# Altium schematic symbol library SparkFun-Connectors.SCHLIB: 402 symbols (part 1 of 4)
Pins are listed as number, name and electrical type; pins without a type are passive.

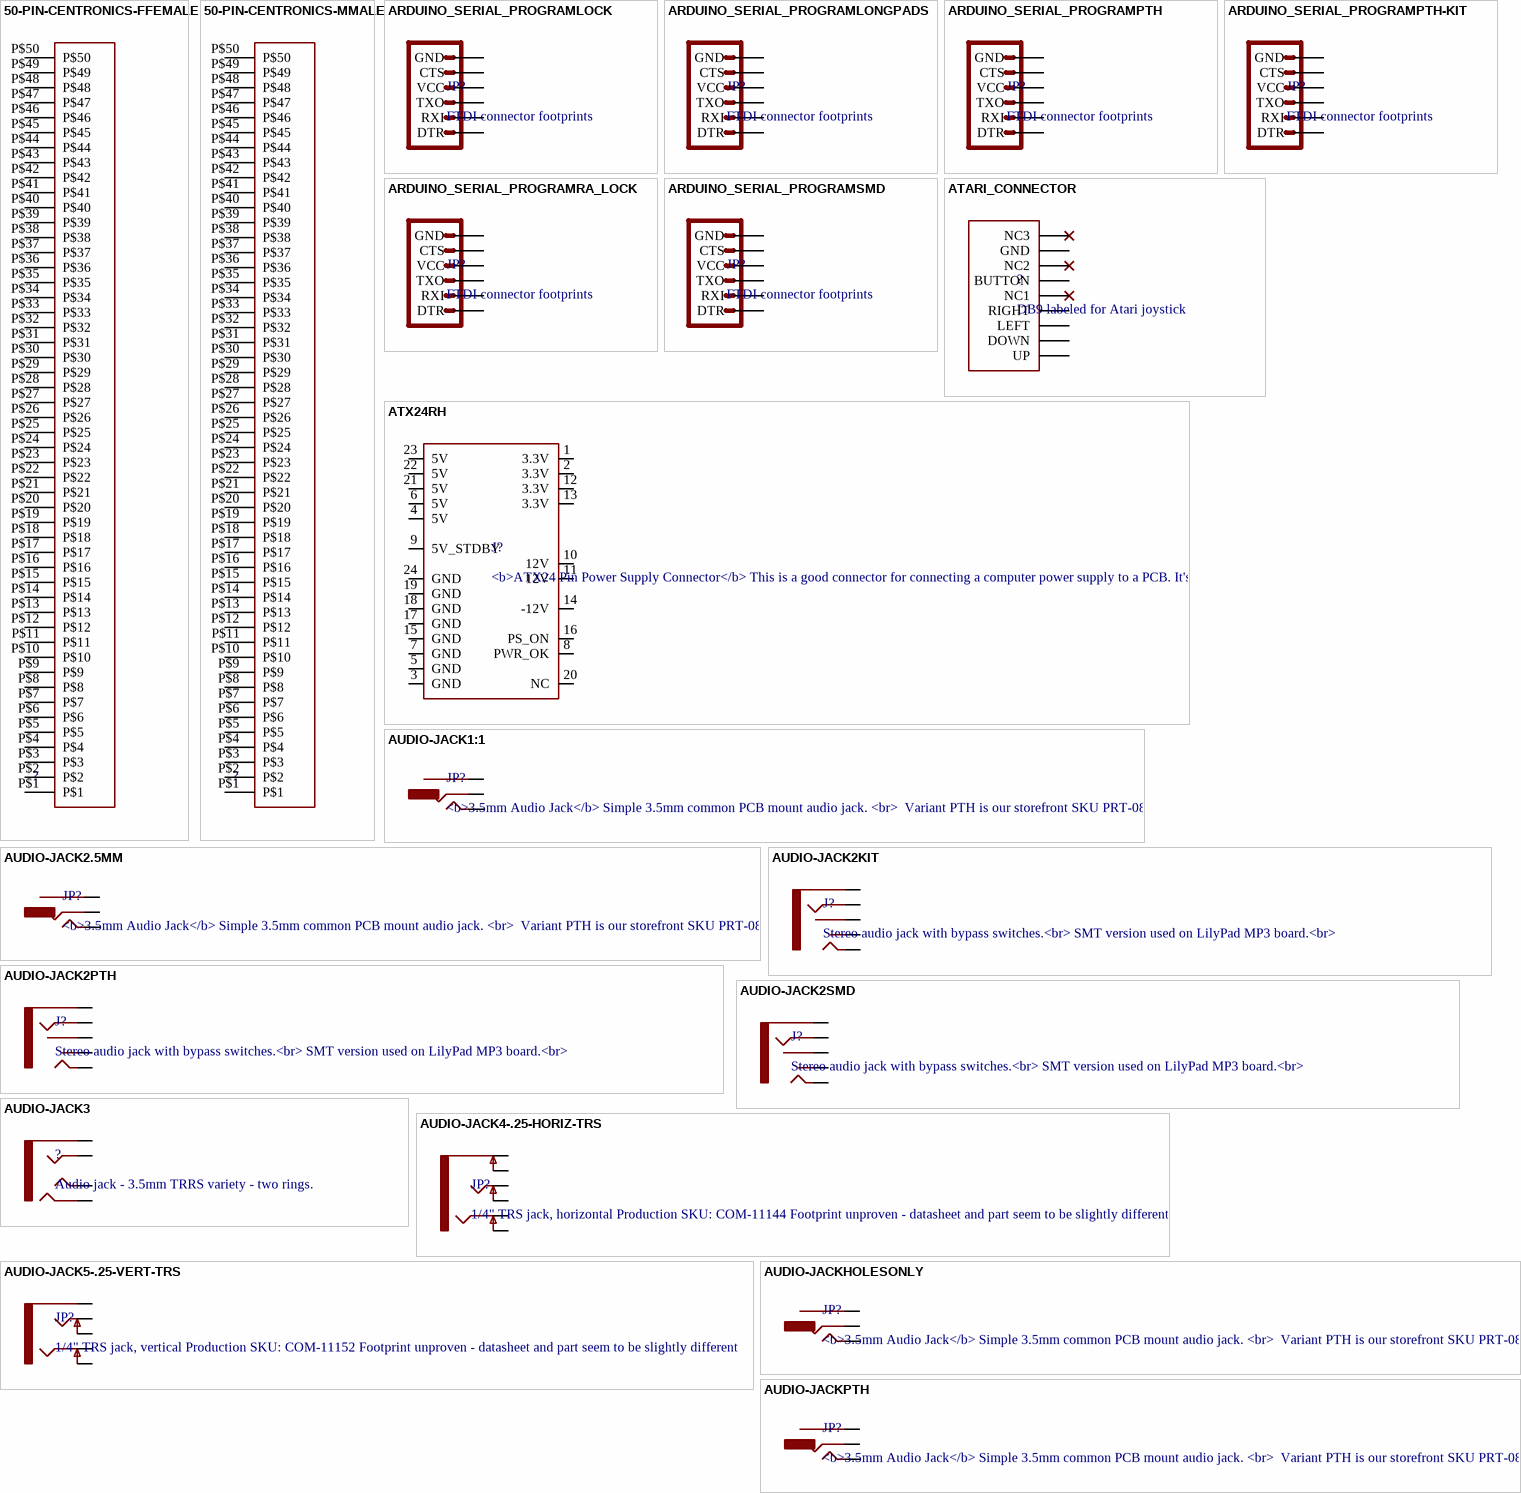
[diagram p0: symbols 50-PIN-CENTRONICS-FFEMALE to AUDIO-JACKPTH]

## 50-PIN-CENTRONICS-FFEMALE
designator ?
footprint 50-PIN-CENTRONICS-F
pins: P$1, P$2, P$3, P$4, P$5, P$6, P$7, P$8, P$9, P$10, P$11, P$12, P$13, P$14, P$15, P$16, P$17, P$18, P$19, P$20, P$21, P$22, P$23, P$24, P$25, P$26, P$27, P$28, P$29, P$30, P$31, P$32, P$33, P$34, P$35, P$36, P$37, P$38, P$39, P$40, P$41, P$42, P$43, P$44, P$45, P$46, P$47, P$48, P$49, P$50

## 50-PIN-CENTRONICS-MMALE
designator ?
footprint 50-PIN-CENTRONICS-M
pins: P$1, P$2, P$3, P$4, P$5, P$6, P$7, P$8, P$9, P$10, P$11, P$12, P$13, P$14, P$15, P$16, P$17, P$18, P$19, P$20, P$21, P$22, P$23, P$24, P$25, P$26, P$27, P$28, P$29, P$30, P$31, P$32, P$33, P$34, P$35, P$36, P$37, P$38, P$39, P$40, P$41, P$42, P$43, P$44, P$45, P$46, P$47, P$48, P$49, P$50

## ARDUINO_SERIAL_PROGRAMLOCK
designator JP?, comment FTDI connector footprints
footprint 1X06_LOCK
pins: 1 DTR, 2 RXI, 3 TXO, 4 VCC, 5 CTS, 6 GND

## ARDUINO_SERIAL_PROGRAMLONGPADS
designator JP?, comment FTDI connector footprints
footprint 1X06_LONGPADS
pins: 1 DTR, 2 RXI, 3 TXO, 4 VCC, 5 CTS, 6 GND

## ARDUINO_SERIAL_PROGRAMPTH
designator JP?, comment FTDI connector footprints
footprint 1X06
pins: 1 DTR, 2 RXI, 3 TXO, 4 VCC, 5 CTS, 6 GND

## ARDUINO_SERIAL_PROGRAMPTH-KIT
designator JP?, comment FTDI connector footprints
footprint 1X06-KIT
pins: 1 DTR, 2 RXI, 3 TXO, 4 VCC, 5 CTS, 6 GND

## ARDUINO_SERIAL_PROGRAMRA_LOCK
designator JP?, comment FTDI connector footprints
footprint MOLEX-1X6-RA_LOCK
pins: 1 GND, 2 CTS, 3 VCC, 4 TXO, 5 RXI, 6 DTR

## ARDUINO_SERIAL_PROGRAMSMD
designator JP?, comment FTDI connector footprints
PROD_ID: CONN-08971
footprint 1X06-SMD
pins: 1 DTR, 2 RXI, 3 TXO, 4 VCC, 5 CTS, 6 GND

## ATARI_CONNECTOR
designator ?, comment DB9 labeled for Atari joystick
footprint ATARI_CONNECTOR
pins: P$1 BUTTON, P$2 NC2, P$3 GND, P$4 NC3, P$5 UP, P$6 DOWN, P$7 LEFT, P$8 RIGHT, P$9 NC1

## ATX24RH
designator J?, comment <b>ATX24 Pin Power Supply Connector</b> This is a good connector for connecting a computer power supply to a PCB. It's massive, but provides many amps of power at 5V and 12V. SKU: PRT-09498
footprint ATX24_RIGHT_ANGLE
pins: 1 3.3V, 2 3.3V, 3 GND, 4 5V, 5 GND, 6 5V, 7 GND, 8 PWR_OK, 9 5V_STDBY, 10 12V, 11 12V, 12 3.3V, 13 3.3V, 14 -12V, 15 GND, 16 PS_ON, 17 GND, 18 GND, 19 GND, 20 NC, 21 5V, 22 5V, 23 5V, 24 GND

## AUDIO-JACK1:1
designator JP?, comment <b>3.5mm Audio Jack</b> / Simple 3.5mm common PCB mount audio jack. <br> / Variant PTH is our storefront SKU PRT-08032
footprint STEREOJACK2.5MM
pins: 1 LEFT, 4 RIGHT, 5 SLEEVE

## AUDIO-JACK2.5MM
designator JP?, comment <b>3.5mm Audio Jack</b> / Simple 3.5mm common PCB mount audio jack. <br> / Variant PTH is our storefront SKU PRT-08032
footprint STEREOJACK2.5MM_STEREOJACK2.5MM
pins: RING1 SLEEVE, SHIELD LEFT, TIP RIGHT

## AUDIO-JACK2KIT
designator J?, comment Stereo audio jack with bypass switches.<br> / SMT version used on LilyPad MP3 board.<br>
PROD_ID: CONN-08774
footprint AUDIO-JACK-KIT
pins: RING, RSH, SLEEVE, TIP, TSH

## AUDIO-JACK2PTH
designator J?, comment Stereo audio jack with bypass switches.<br> / SMT version used on LilyPad MP3 board.<br>
PROD_ID: CONN-08774
footprint AUDIO-JACK
pins: RING, RSH, SLEEVE, TIP, TSH

## AUDIO-JACK2SMD
designator J?, comment Stereo audio jack with bypass switches.<br> / SMT version used on LilyPad MP3 board.<br>
PROD_ID: CONN-10353
footprint AUDIO-JACK-3.5MM-SMD
pins: RING, RSH, SLEEVE, TIP, TSH

## AUDIO-JACK3
designator ?, comment Audio jack - 3.5mm TRRS variety - two rings.
footprint AUDIO-JACK-TRRS-SMD
pins: EARTH, RING1, RING2, TIP

## AUDIO-JACK4-.25-HORIZ-TRS
designator JP?, comment 1/4" TRS jack, horizontal / Production SKU: COM-11144 / Footprint unproven - datasheet and part seem to be slightly different
PROD_ID: COM-11144
footprint AUDIO-JACK-.25-INCH-HORIZ-PTH
pins: RING, RING-NORM, SLEEVE EARTH, SLEEVE-NORM EARTH-NORM, TIP, TIP-NORM

## AUDIO-JACK5-.25-VERT-TRS
designator JP?, comment 1/4" TRS jack, vertical / Production SKU: COM-11152 / Footprint unproven - datasheet and part seem to be slightly different
PROD_ID: COM-11152
footprint AUDIO-JACK-.25-INCH-VERT-PTH
pins: RING, RING-NORM, SLEEVE EARTH, TIP, TIP-NORM

## AUDIO-JACKHOLESONLY
designator JP?, comment <b>3.5mm Audio Jack</b> / Simple 3.5mm common PCB mount audio jack. <br> / Variant PTH is our storefront SKU PRT-08032
footprint STEREOJACK2.5MM_SPECIAL_HOLES-ONLY
pins: RING1 SLEEVE, SHIELD LEFT, TIP RIGHT

## AUDIO-JACKPTH
designator JP?, comment <b>3.5mm Audio Jack</b> / Simple 3.5mm common PCB mount audio jack. <br> / Variant PTH is our storefront SKU PRT-08032
footprint AUDIO-JACK
pins: RING RIGHT, SLEEVE, TIP LEFT

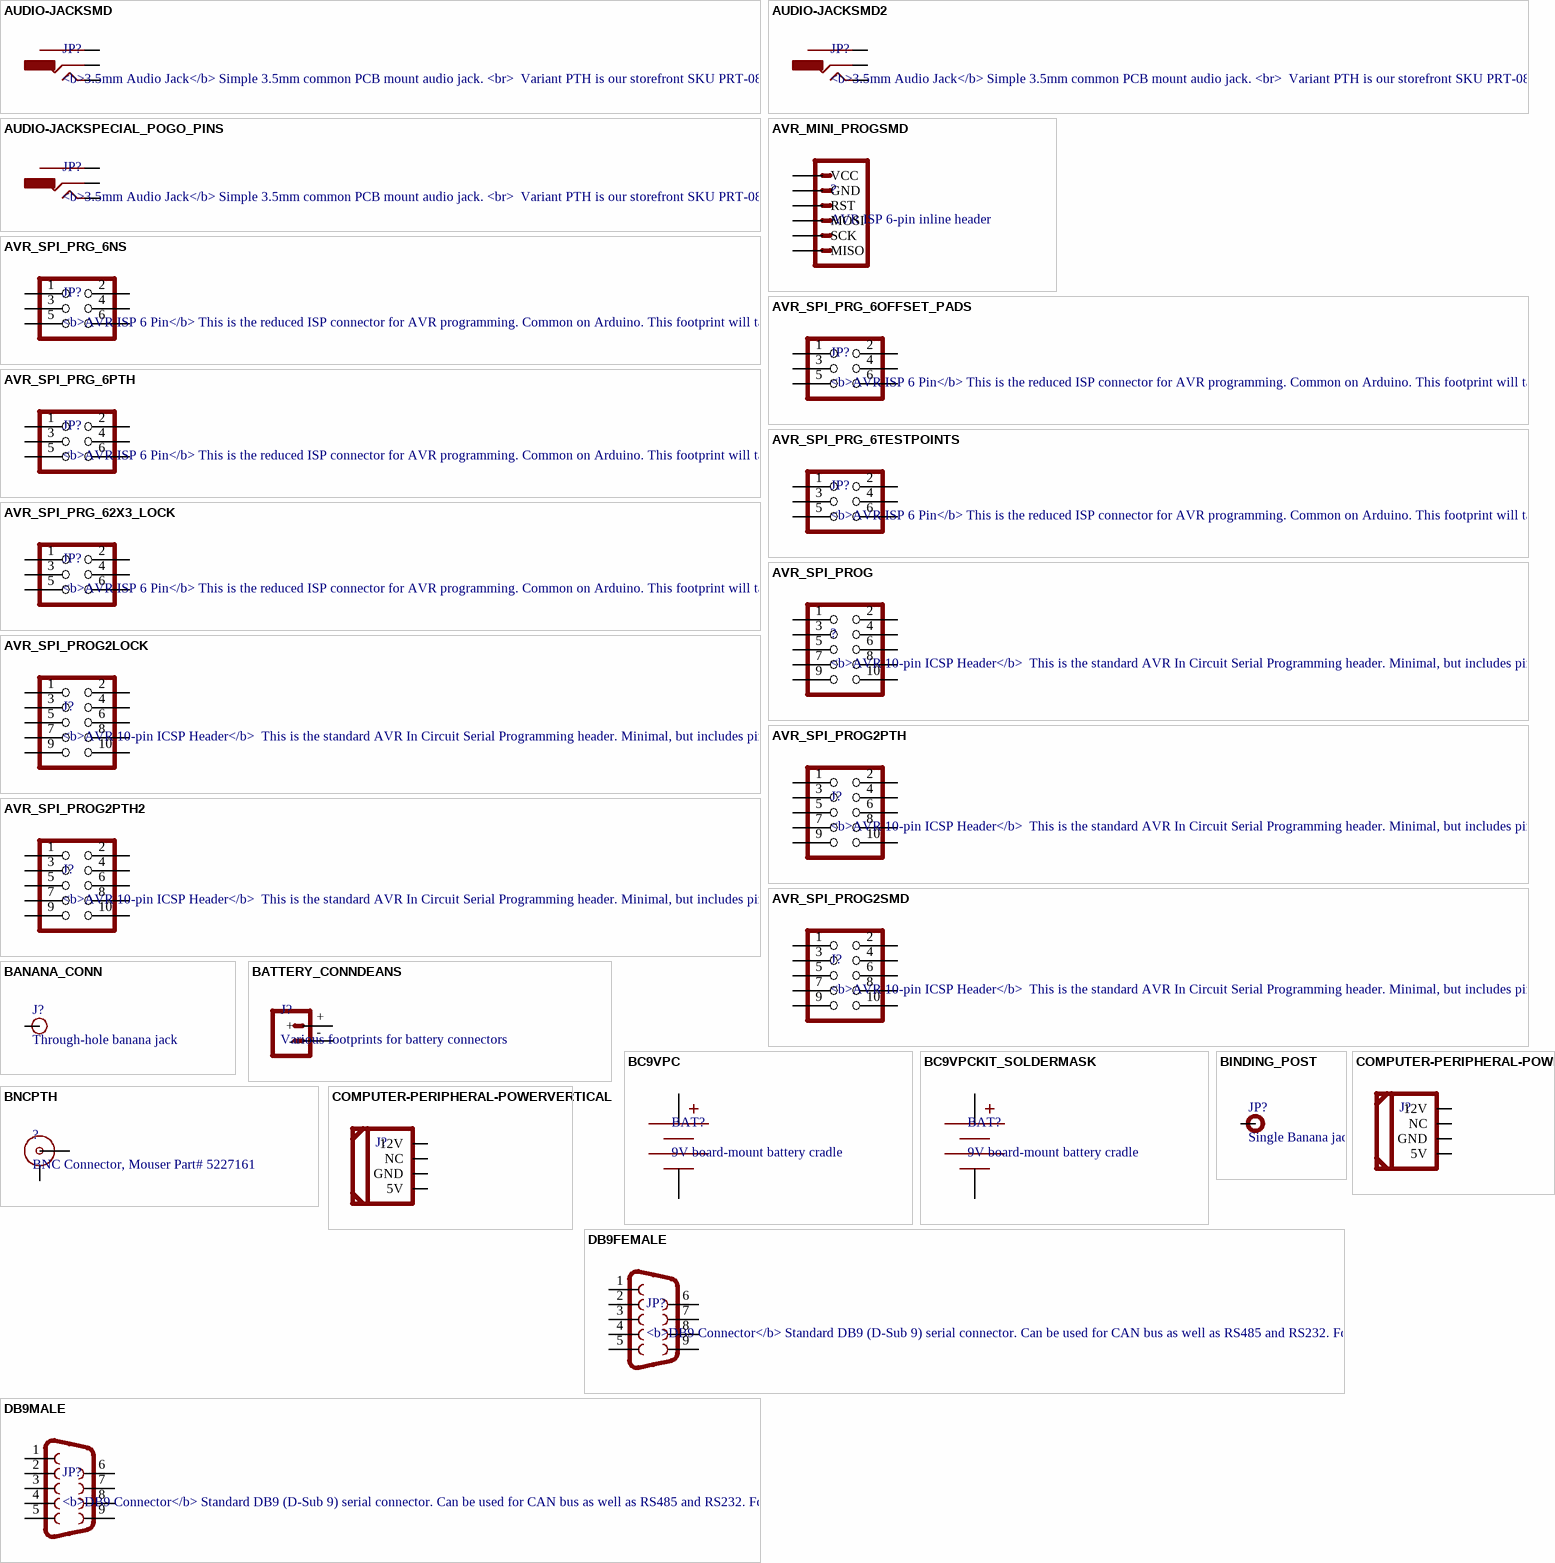
[diagram p1: symbols AUDIO-JACKSMD to DB9MALE]

## AUDIO-JACKSMD
designator JP?, comment <b>3.5mm Audio Jack</b> / Simple 3.5mm common PCB mount audio jack. <br> / Variant PTH is our storefront SKU PRT-08032
PROD_ID: CONN-10062
footprint STEREOJACK2.5MM_SMD
pins: 1 LEFT, 4 RIGHT, 5 SLEEVE

## AUDIO-JACKSMD2
designator JP?, comment <b>3.5mm Audio Jack</b> / Simple 3.5mm common PCB mount audio jack. <br> / Variant PTH is our storefront SKU PRT-08032
PROD_ID: CONN-10353
footprint AUDIO-JACK-3.5MM-SMD
pins: RING RIGHT, SLEEVE, TIP LEFT

## AUDIO-JACKSPECIAL_POGO_PINS
designator JP?, comment <b>3.5mm Audio Jack</b> / Simple 3.5mm common PCB mount audio jack. <br> / Variant PTH is our storefront SKU PRT-08032
footprint STEREOJACK2.5MM_SPECIA_POGOPINS
pins: RING1 SLEEVE, SHIELD LEFT, TIP RIGHT

## AVR_MINI_PROGSMD
designator ?, comment AVR ISP 6-pin inline header
footprint AVR_MINI_PROG
pins: 1 VCC, 2 GND, 3 RST, 4 MOSI, 5 SCK, 6 MISO

## AVR_SPI_PRG_6NS
designator JP?, comment <b>AVR ISP 6 Pin</b> / This is the reduced ISP connector for AVR programming. Common on Arduino. This footprint will take up less PCB space and can be used with a 10-pin to 6-pin adapter such as SKU: BOB-08508 / <b>**Special note about "TEST_POINT" package.</b> The stop mask is on the top side, so if you want your programming test points to be on the bottom of your board, make sure to place this package on the bottom side of the board. This also ensure that the orientation to program from the bottom side will be correct.
footprint 2X3-NS
pins: 1, 2, 3, 4, 5, 6

## AVR_SPI_PRG_6OFFSET_PADS
designator JP?, comment <b>AVR ISP 6 Pin</b> / This is the reduced ISP connector for AVR programming. Common on Arduino. This footprint will take up less PCB space and can be used with a 10-pin to 6-pin adapter such as SKU: BOB-08508 / <b>**Special note about "TEST_POINT" package.</b> The stop mask is on the top side, so if you want your programming test points to be on the bottom of your board, make sure to place this package on the bottom side of the board. This also ensure that the orientation to program from the bottom side will be correct.
footprint 2X3_OFFSET
pins: 1, 2, 3, 4, 5, 6

## AVR_SPI_PRG_6PTH
designator JP?, comment <b>AVR ISP 6 Pin</b> / This is the reduced ISP connector for AVR programming. Common on Arduino. This footprint will take up less PCB space and can be used with a 10-pin to 6-pin adapter such as SKU: BOB-08508 / <b>**Special note about "TEST_POINT" package.</b> The stop mask is on the top side, so if you want your programming test points to be on the bottom of your board, make sure to place this package on the bottom side of the board. This also ensure that the orientation to program from the bottom side will be correct.
footprint 2X3
pins: 1, 2, 3, 4, 5, 6

## AVR_SPI_PRG_6TESTPOINTS
designator JP?, comment <b>AVR ISP 6 Pin</b> / This is the reduced ISP connector for AVR programming. Common on Arduino. This footprint will take up less PCB space and can be used with a 10-pin to 6-pin adapter such as SKU: BOB-08508 / <b>**Special note about "TEST_POINT" package.</b> The stop mask is on the top side, so if you want your programming test points to be on the bottom of your board, make sure to place this package on the bottom side of the board. This also ensure that the orientation to program from the bottom side will be correct.
footprint 2X3_TEST_POINTS
pins: 1, 2, 3, 4, 5, 6

## AVR_SPI_PRG_62X3_LOCK
designator JP?, comment <b>AVR ISP 6 Pin</b> / This is the reduced ISP connector for AVR programming. Common on Arduino. This footprint will take up less PCB space and can be used with a 10-pin to 6-pin adapter such as SKU: BOB-08508 / <b>**Special note about "TEST_POINT" package.</b> The stop mask is on the top side, so if you want your programming test points to be on the bottom of your board, make sure to place this package on the bottom side of the board. This also ensure that the orientation to program from the bottom side will be correct.
footprint 2X3_LOCK
pins: 1, 2, 3, 4, 5, 6

## AVR_SPI_PROG
designator ?, comment <b>AVR 10-pin ICSP Header</b> / This is the standard AVR In Circuit Serial Programming header. Minimal, but includes pin one indicator. Works with standard Olimex programmers. Also look for the 6-pin reduced version. Spark Fun Electronics SKU: PRT-00778
footprint AVR_ICSP
pins: 1, 2, 3, 4, 5, 6, 7, 8, 9, 10

## AVR_SPI_PROG2LOCK
designator J?, comment <b>AVR 10-pin ICSP Header</b> / This is the standard AVR In Circuit Serial Programming header. Minimal, but includes pin one indicator. Works with standard Olimex programmers. Also look for the 6-pin reduced version. Spark Fun Electronics SKU: PRT-00778
footprint 2X5-SHROUDED_LOCK
pins: 1 MOSI, 2 VCC (power), 3 NC, 4 GND (power), 5 RESET, 6 GND (power), 7 SCK, 8 GND (power), 9 MISO, 10 GND (power)

## AVR_SPI_PROG2PTH
designator J?, comment <b>AVR 10-pin ICSP Header</b> / This is the standard AVR In Circuit Serial Programming header. Minimal, but includes pin one indicator. Works with standard Olimex programmers. Also look for the 6-pin reduced version. Spark Fun Electronics SKU: PRT-00778
footprint AVR_ICSP
pins: 1 MOSI, 2 VCC (power), 3 NC, 4 GND (power), 5 RESET, 6 GND (power), 7 SCK, 8 GND (power), 9 MISO, 10 GND (power)

## AVR_SPI_PROG2PTH2
designator J?, comment <b>AVR 10-pin ICSP Header</b> / This is the standard AVR In Circuit Serial Programming header. Minimal, but includes pin one indicator. Works with standard Olimex programmers. Also look for the 6-pin reduced version. Spark Fun Electronics SKU: PRT-00778
footprint 2X5-SHROUDED
pins: 1 MOSI, 2 VCC (power), 3 NC, 4 GND (power), 5 RESET, 6 GND (power), 7 SCK, 8 GND (power), 9 MISO, 10 GND (power)

## AVR_SPI_PROG2SMD
designator J?, comment <b>AVR 10-pin ICSP Header</b> / This is the standard AVR In Circuit Serial Programming header. Minimal, but includes pin one indicator. Works with standard Olimex programmers. Also look for the 6-pin reduced version. Spark Fun Electronics SKU: PRT-00778
footprint 2X5-SHROUDED_SMD
pins: 1 MOSI, 2 VCC (power), 3 NC, 4 GND (power), 5 RESET, 6 GND (power), 7 SCK, 8 GND (power), 9 MISO, 10 GND (power)

## BANANA_CONN
designator J?, comment Through-hole banana jack
footprint BANANA_CONN
pins: P$1 1

## BATTERY_CONNDEANS
designator J?, comment Various footprints for battery connectors
footprint DEANS
pins: +, -

## BC9VPC
designator BAT?, comment 9V board-mount battery cradle
PROD_ID: BATT-10855
footprint BC9VPC
pins: V+, V-

## BC9VPCKIT_SOLDERMASK
designator BAT?, comment 9V board-mount battery cradle
PROD_ID: BATT-10855
footprint BC9VPC_KIT
pins: V+, V-

## BINDING_POST
designator JP?, comment Single Banana jack.  <br><br> / PRT-09739 (red) or PRT-09740 (blk) <br><br> / Footprint is a bit strange.  The component itself has an threaded, insulated body that goes through the board, with a small threaded metal stud coming off the back.  The intent of this package is that the post goes through a milled obling hole, and a small wire would be used to connect from the PCB pad to the metal contact on the post.
footprint BINDING_POST
pins: P$1

## BNCPTH
designator ?, comment BNC Connector, Mouser Part# 5227161
footprint BNC
pins: GND, S OUT

## COMPUTER-PERIPHERAL-POWERRA
designator J?
footprint COMPUTER-PERIPHERAL-POWER-RA
pins: 5V, 12V, GND, NC

## COMPUTER-PERIPHERAL-POWERVERTICAL
designator J?
footprint COMPUTER-PERIPHERAL-POWER
pins: 5V, 12V, GND, NC

## DB9FEMALE
designator JP?, comment <b>DB9 Connector</b> / Standard DB9 (D-Sub 9) serial connector. Can be used for CAN bus as well as RS485 and RS232. Footprint production proven. Spark Fun Electronics SKU : PRT-00429
PROD_ID: CONN-08194
footprint DB9
pins: 1, 2, 3, 4, 5, 6, 7, 8, 9

## DB9MALE
designator JP?, comment <b>DB9 Connector</b> / Standard DB9 (D-Sub 9) serial connector. Can be used for CAN bus as well as RS485 and RS232. Footprint production proven. Spark Fun Electronics SKU : PRT-00429
PROD_ID: CONN-09904
footprint DB9_MALE
pins: 1, 2, 3, 4, 5, 6, 7, 8, 9

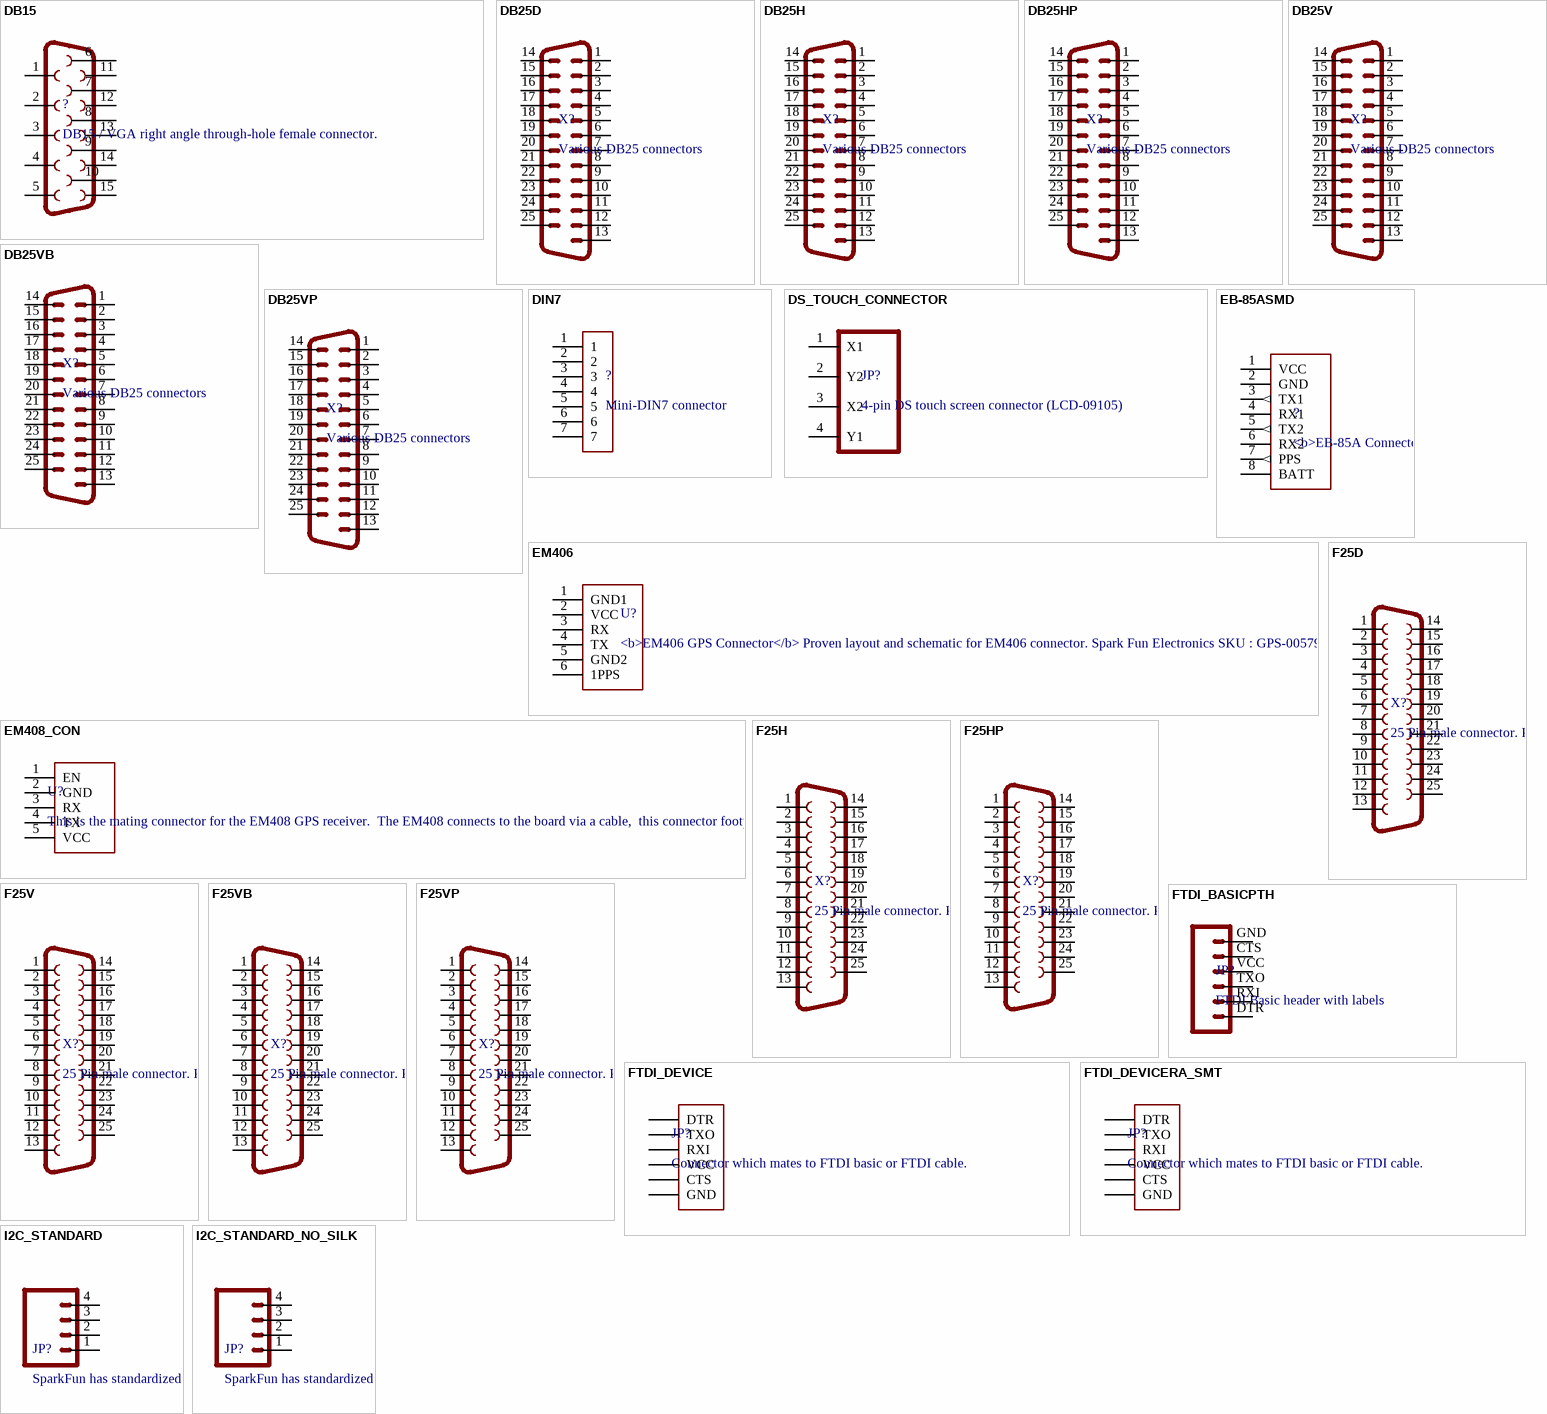
[diagram p2: symbols DB15 to I2C_STANDARD_NO_SILK]

## DB15
designator ?, comment DB15 / VGA right angle through-hole female connector.
footprint DB15
pins: 1, 2, 3, 4, 5, 6, 7, 8, 9, 10, 11, 12, 13, 14, 15

## DB25D
designator X?, comment Various DB25 connectors
footprint M25D
pins: 1, 2, 3, 4, 5, 6, 7, 8, 9, 10, 11, 12, 13, 14, 15, 16, 17, 18, 19, 20, 21, 22, 23, 24, 25

## DB25H
designator X?, comment Various DB25 connectors
footprint M25H
pins: 1, 2, 3, 4, 5, 6, 7, 8, 9, 10, 11, 12, 13, 14, 15, 16, 17, 18, 19, 20, 21, 22, 23, 24, 25

## DB25HP
designator X?, comment Various DB25 connectors
footprint M25HP
pins: 1, 2, 3, 4, 5, 6, 7, 8, 9, 10, 11, 12, 13, 14, 15, 16, 17, 18, 19, 20, 21, 22, 23, 24, 25

## DB25V
designator X?, comment Various DB25 connectors
footprint M25V
pins: 1, 2, 3, 4, 5, 6, 7, 8, 9, 10, 11, 12, 13, 14, 15, 16, 17, 18, 19, 20, 21, 22, 23, 24, 25

## DB25VB
designator X?, comment Various DB25 connectors
footprint M25VB
pins: 1, 2, 3, 4, 5, 6, 7, 8, 9, 10, 11, 12, 13, 14, 15, 16, 17, 18, 19, 20, 21, 22, 23, 24, 25

## DB25VP
designator X?, comment Various DB25 connectors
footprint M25VP
pins: 1, 2, 3, 4, 5, 6, 7, 8, 9, 10, 11, 12, 13, 14, 15, 16, 17, 18, 19, 20, 21, 22, 23, 24, 25

## DIN7
designator ?, comment Mini-DIN7 connector
footprint DIN7
pins: 1, 2, 3, 4, 5, 6, 7

## DS_TOUCH_CONNECTOR
designator JP?, comment 4-pin DS touch screen connector (LCD-09105)
footprint DS_TOUCH_CONNECTOR
pins: 1 X1, 2 Y2, 3 X2, 4 Y1

## EB-85ASMD
designator ?, comment <b>EB-85A Connector</b> / Proven layout and schematic for ETek 5Hz GPS receiver connector. Spark Fun Electronics SKU : GPS-08297
footprint EB-85A
pins: 1 VCC (power), 2 GND (power), 3 TX1 (out), 4 RX1, 5 TX2 (out), 6 RX2, 7 PPS (out), 8 BATT (power)

## EM406
designator U?, comment <b>EM406 GPS Connector</b> / Proven layout and schematic for EM406 connector. Spark Fun Electronics SKU : GPS-00579
footprint EM406
pins: 1 GND1, 2 VCC, 3 RX, 4 TX, 5 GND2, 6 1PPS

## EM408_CON
designator U?, comment This is the mating connector for the EM408 GPS receiver.  The EM408 connects to the board via a cable, / this connector footprint does not include the outline of the receiver. / You should include the "EM408_Outline" device in your schematic if you are to use the EM408 in your design.
footprint EM408_CON
pins: 1 EN, 2 GND, 3 RX, 4 TX, 5 VCC

## F25D
designator X?, comment 25 Pin male connector. PCB edge mount for regular PCB thicknesses. This connector will connect directly to the back of a PC parallel port or through a normal DB25 extension cable (M/F). SKU: PRT-08287
footprint F25D
pins: 1, 2, 3, 4, 5, 6, 7, 8, 9, 10, 11, 12, 13, 14, 15, 16, 17, 18, 19, 20, 21, 22, 23, 24, 25

## F25H
designator X?, comment 25 Pin male connector. PCB edge mount for regular PCB thicknesses. This connector will connect directly to the back of a PC parallel port or through a normal DB25 extension cable (M/F). SKU: PRT-08287
footprint F25H
pins: 1, 2, 3, 4, 5, 6, 7, 8, 9, 10, 11, 12, 13, 14, 15, 16, 17, 18, 19, 20, 21, 22, 23, 24, 25

## F25HP
designator X?, comment 25 Pin male connector. PCB edge mount for regular PCB thicknesses. This connector will connect directly to the back of a PC parallel port or through a normal DB25 extension cable (M/F). SKU: PRT-08287
footprint F25HP
pins: 1, 2, 3, 4, 5, 6, 7, 8, 9, 10, 11, 12, 13, 14, 15, 16, 17, 18, 19, 20, 21, 22, 23, 24, 25

## F25V
designator X?, comment 25 Pin male connector. PCB edge mount for regular PCB thicknesses. This connector will connect directly to the back of a PC parallel port or through a normal DB25 extension cable (M/F). SKU: PRT-08287
footprint F25V
pins: 1, 2, 3, 4, 5, 6, 7, 8, 9, 10, 11, 12, 13, 14, 15, 16, 17, 18, 19, 20, 21, 22, 23, 24, 25

## F25VB
designator X?, comment 25 Pin male connector. PCB edge mount for regular PCB thicknesses. This connector will connect directly to the back of a PC parallel port or through a normal DB25 extension cable (M/F). SKU: PRT-08287
footprint F25VB
pins: 1, 2, 3, 4, 5, 6, 7, 8, 9, 10, 11, 12, 13, 14, 15, 16, 17, 18, 19, 20, 21, 22, 23, 24, 25

## F25VP
designator X?, comment 25 Pin male connector. PCB edge mount for regular PCB thicknesses. This connector will connect directly to the back of a PC parallel port or through a normal DB25 extension cable (M/F). SKU: PRT-08287
footprint F25VP
pins: 1, 2, 3, 4, 5, 6, 7, 8, 9, 10, 11, 12, 13, 14, 15, 16, 17, 18, 19, 20, 21, 22, 23, 24, 25

## FTDI_BASICPTH
designator JP?, comment FTDI Basic header with labels
footprint FTDI_BASIC
pins: CTS 5, DTR 1, GND 6, RXI 2, TXO 3, VCC 4

## FTDI_DEVICE
designator JP?, comment Connector which mates to FTDI basic or FTDI cable.
footprint FTDI_DEVICE_SIDE
pins: P$1 DTR, P$2 TXO, P$3 RXI, P$4 VCC, P$5 CTS, P$6 GND

## FTDI_DEVICERA_SMT
designator JP?, comment Connector which mates to FTDI basic or FTDI cable.
PROD_ID: CONN-08971
footprint FTDI_DEVICE_RA_SMT
pins: 1 DTR, 2 TXO, 3 RXI, 4 VCC, 5 CTS, 6 GND

## I2C_STANDARD
designator JP?, comment SparkFun has standardized on a pinout for all I<sup>2</sup>C based sensor breakouts.<br> / <br> / This pinout allows I<sup>2</sup>C boards to be plugged directly into the headers on Arduino Uno compatible boards, and / to be daisy chained easily.
footprint 1X04
pins: 1, 2, 3, 4

## I2C_STANDARD_NO_SILK
designator JP?, comment SparkFun has standardized on a pinout for all I<sup>2</sup>C based sensor breakouts.<br> / <br> / This pinout allows I<sup>2</sup>C boards to be plugged directly into the headers on Arduino Uno compatible boards, and / to be daisy chained easily.
footprint 1X04_NO_SILK
pins: 1, 2, 3, 4

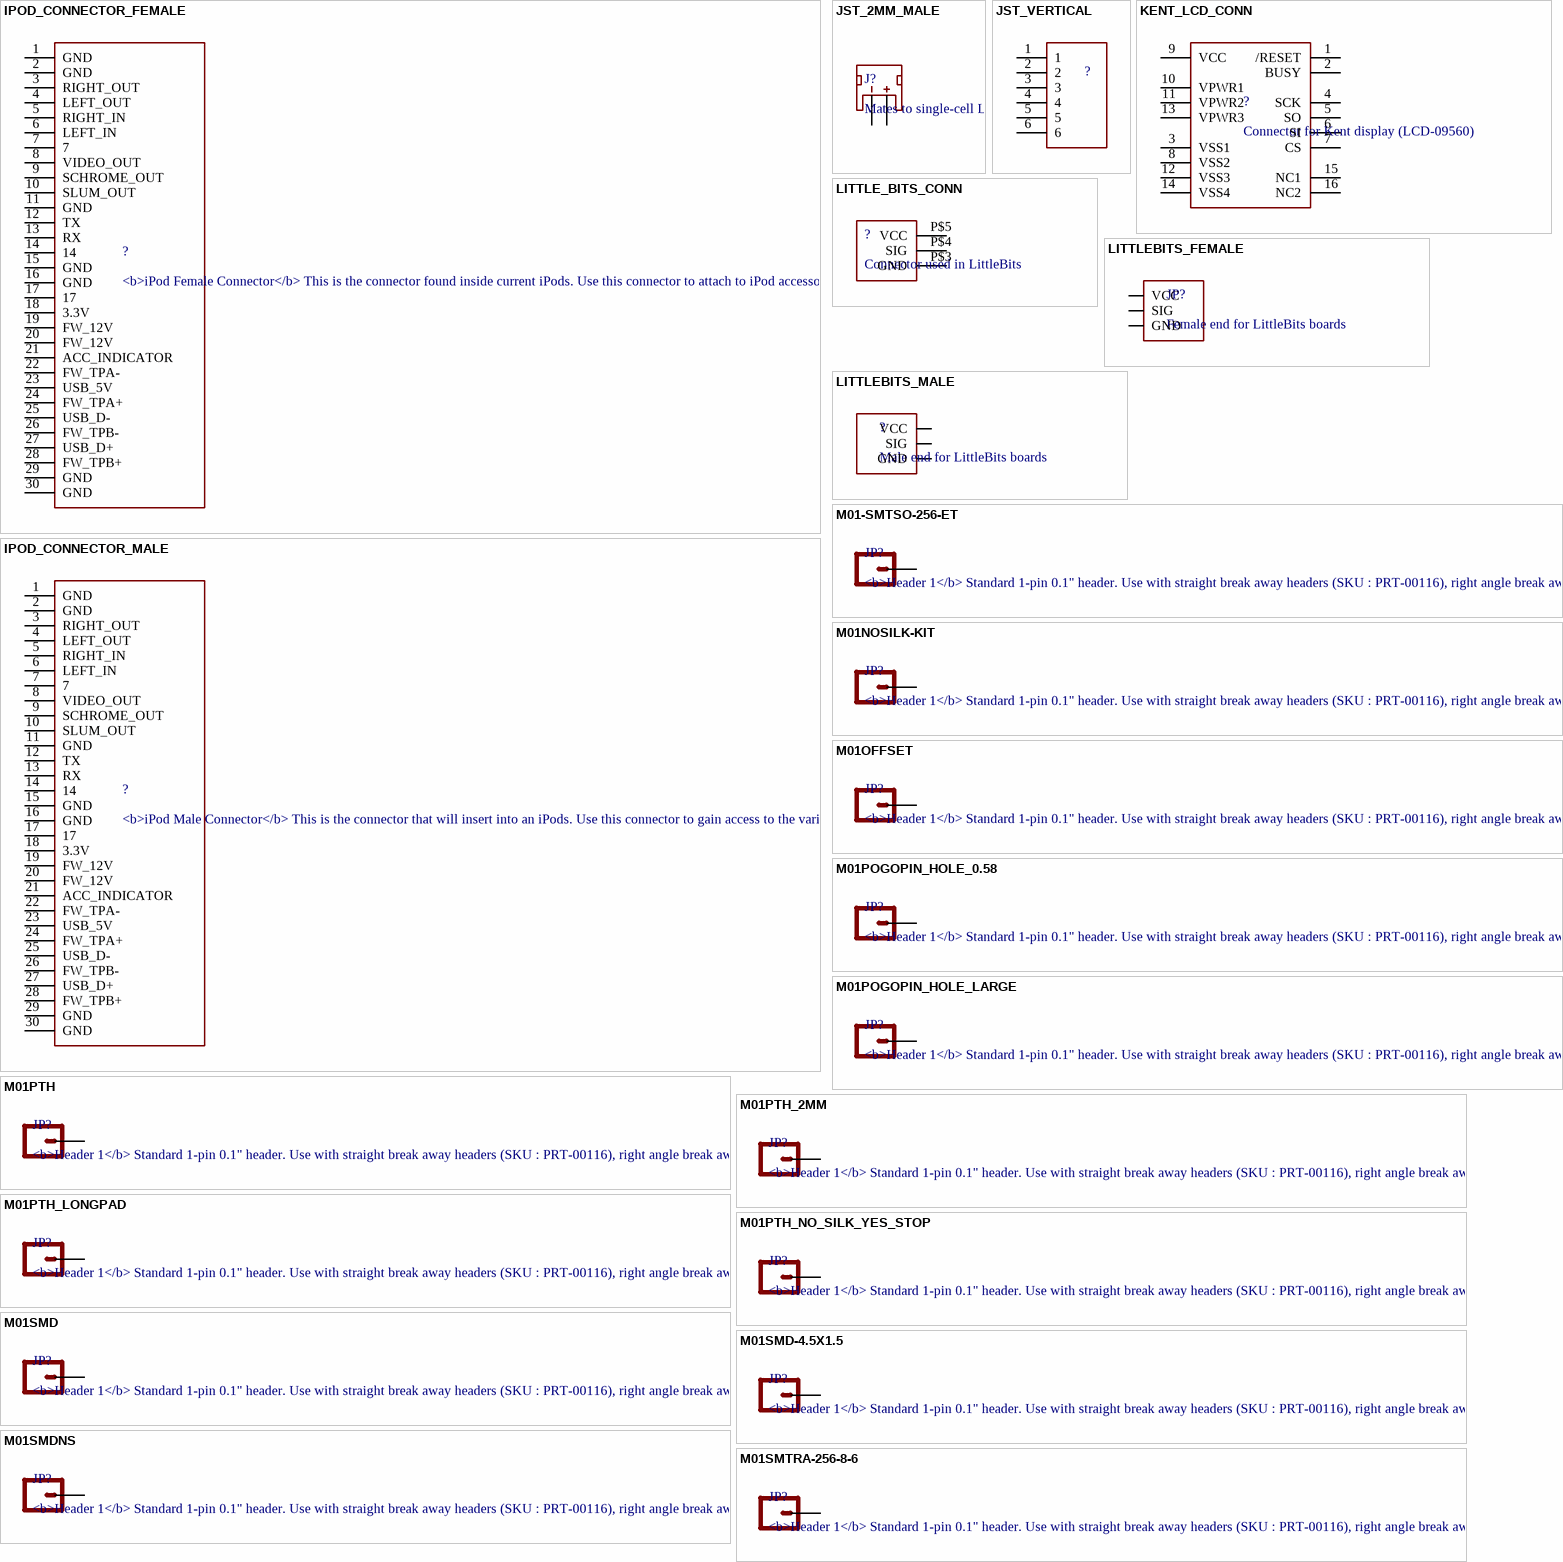
[diagram p3: symbols IPOD_CONNECTOR_FEMALE to M01SMTRA-256-8-6]

## IPOD_CONNECTOR_FEMALE
designator ?, comment <b>iPod Female Connector</b> / This is the connector found inside current iPods. Use this connector to attach to iPod accessories like Nike+iPods, etc. Schematic and footprint are not yet production proven. Spark Fun Electronics SKU : DEV-08035
footprint IPOD_FEMALE_CONNECTOR
pins: 1 GND, 2 GND, 3 RIGHT_OUT, 4 LEFT_OUT, 5 RIGHT_IN, 6 LEFT_IN, 7, 8 VIDEO_OUT, 9 SCHROME_OUT, 10 SLUM_OUT, 11 GND, 12 TX, 13 RX, 14, 15 GND, 16 GND, 17, 18 3.3V, 19 FW_12V, 20 FW_12V, 21 ACC_INDICATOR, 22 FW_TPA-, 23 USB_5V, 24 FW_TPA+, 25 USB_D-, 26 FW_TPB-, 27 USB_D+, 28 FW_TPB+, 29 GND, 30 GND

## IPOD_CONNECTOR_MALE
designator ?, comment <b>iPod Male Connector</b> / This is the connector that will insert into an iPods. Use this connector to gain access to the various iPod pins. Schematic and footprint are not yet production proven. The PCB thickness must be more thin than the standard 0.062" FR4. Spark Fun Electronics SKU : DEV-00633
footprint IPOD_MALE_CONNECTOR
pins: 1 GND, 2 GND, 3 RIGHT_OUT, 4 LEFT_OUT, 5 RIGHT_IN, 6 LEFT_IN, 7, 8 VIDEO_OUT, 9 SCHROME_OUT, 10 SLUM_OUT, 11 GND, 12 TX, 13 RX, 14, 15 GND, 16 GND, 17, 18 3.3V, 19 FW_12V, 20 FW_12V, 21 ACC_INDICATOR, 22 FW_TPA-, 23 USB_5V, 24 FW_TPA+, 25 USB_D-, 26 FW_TPB-, 27 USB_D+, 28 FW_TPB+, 29 GND, 30 GND

## JST_2MM_MALE
designator J?, comment Mates to single-cell LiPo batteries.<br> / CONN-11443<br /> / Now with smashable polarity marks!
BTM_POS: +; BTM_NEG: -; PROD_ID: CONN-11443; TOP_NEG: -; TOP_POS: +
footprint JST-2-SMD
pins: 1 -, 2 +, NC1 PAD1, NC2 PAD2

## JST_VERTICAL
designator ?
PROD_ID: CONN-08249
footprint JST-6-SMD-VERT-1.0MM
pins: 1, 2, 3, 4, 5, 6

## KENT_LCD_CONN
designator ?, comment Connector for Kent display (LCD-09560)
footprint FFC_16
pins: 1 /RESET, 2 BUSY, 3 VSS1, 4 SCK, 5 SO, 6 SI, 7 CS, 8 VSS2, 9 VCC, 10 VPWR1, 11 VPWR2, 12 VSS3, 13 VPWR3, 14 VSS4, 15 NC1, 16 NC2

## LITTLE_BITS_CONN
designator ?, comment Connector used in LittleBits
footprint LITTLEBITS
pins: P$3 GND, P$4 SIG, P$5 VCC

## LITTLEBITS_FEMALE
designator JP?, comment Female end for LittleBits boards
footprint LITTLE_BITS_FEMALE
pins: SIG, V+ VCC, V- GND

## LITTLEBITS_MALE
designator ?, comment Male end for LittleBits boards
footprint LITTLE_BITS_MALE
pins: SIG, V+ VCC, V- GND

## M01-SMTSO-256-ET
designator JP?, comment <b>Header 1</b> / Standard 1-pin 0.1" header. Use with straight break away headers (SKU : PRT-00116), right angle break away headers (PRT-00553), swiss pins (PRT-00743), machine pins (PRT-00117), and female headers (PRT-00115).
footprint SMTSO-256-ET
pins: P$1 1

## M01NOSILK-KIT
designator JP?, comment <b>Header 1</b> / Standard 1-pin 0.1" header. Use with straight break away headers (SKU : PRT-00116), right angle break away headers (PRT-00553), swiss pins (PRT-00743), machine pins (PRT-00117), and female headers (PRT-00115).
footprint 1X01NS-KIT
pins: 1

## M01OFFSET
designator JP?, comment <b>Header 1</b> / Standard 1-pin 0.1" header. Use with straight break away headers (SKU : PRT-00116), right angle break away headers (PRT-00553), swiss pins (PRT-00743), machine pins (PRT-00117), and female headers (PRT-00115).
footprint 1X01_OFFSET
pins: 1

## M01POGOPIN_HOLE_0.58
designator JP?, comment <b>Header 1</b> / Standard 1-pin 0.1" header. Use with straight break away headers (SKU : PRT-00116), right angle break away headers (PRT-00553), swiss pins (PRT-00743), machine pins (PRT-00117), and female headers (PRT-00115).
footprint 1X01_POGOPIN_HOLE_0.58
pins: 1

## M01POGOPIN_HOLE_LARGE
designator JP?, comment <b>Header 1</b> / Standard 1-pin 0.1" header. Use with straight break away headers (SKU : PRT-00116), right angle break away headers (PRT-00553), swiss pins (PRT-00743), machine pins (PRT-00117), and female headers (PRT-00115).
footprint 1X01_POGOPIN_HOLE_LARGE
pins: 1

## M01PTH
designator JP?, comment <b>Header 1</b> / Standard 1-pin 0.1" header. Use with straight break away headers (SKU : PRT-00116), right angle break away headers (PRT-00553), swiss pins (PRT-00743), machine pins (PRT-00117), and female headers (PRT-00115).
footprint 1X01
pins: 1

## M01PTH_2MM
designator JP?, comment <b>Header 1</b> / Standard 1-pin 0.1" header. Use with straight break away headers (SKU : PRT-00116), right angle break away headers (PRT-00553), swiss pins (PRT-00743), machine pins (PRT-00117), and female headers (PRT-00115).
footprint 1X01_2MM
pins: 1

## M01PTH_LONGPAD
designator JP?, comment <b>Header 1</b> / Standard 1-pin 0.1" header. Use with straight break away headers (SKU : PRT-00116), right angle break away headers (PRT-00553), swiss pins (PRT-00743), machine pins (PRT-00117), and female headers (PRT-00115).
footprint 1X01_LONGPAD
pins: 1

## M01PTH_NO_SILK_YES_STOP
designator JP?, comment <b>Header 1</b> / Standard 1-pin 0.1" header. Use with straight break away headers (SKU : PRT-00116), right angle break away headers (PRT-00553), swiss pins (PRT-00743), machine pins (PRT-00117), and female headers (PRT-00115).
footprint 1X01_NO_SILK
pins: 1

## M01SMD
designator JP?, comment <b>Header 1</b> / Standard 1-pin 0.1" header. Use with straight break away headers (SKU : PRT-00116), right angle break away headers (PRT-00553), swiss pins (PRT-00743), machine pins (PRT-00117), and female headers (PRT-00115).
footprint LUXEON-PAD
pins: P$1 1

## M01SMD-4.5X1.5
designator JP?, comment <b>Header 1</b> / Standard 1-pin 0.1" header. Use with straight break away headers (SKU : PRT-00116), right angle break away headers (PRT-00553), swiss pins (PRT-00743), machine pins (PRT-00117), and female headers (PRT-00115).
footprint PAD-1.5X4.5
pins: P$1 1

## M01SMDNS
designator JP?, comment <b>Header 1</b> / Standard 1-pin 0.1" header. Use with straight break away headers (SKU : PRT-00116), right angle break away headers (PRT-00553), swiss pins (PRT-00743), machine pins (PRT-00117), and female headers (PRT-00115).
footprint 1X01NS
pins: 1

## M01SMTRA-256-8-6
designator JP?, comment <b>Header 1</b> / Standard 1-pin 0.1" header. Use with straight break away headers (SKU : PRT-00116), right angle break away headers (PRT-00553), swiss pins (PRT-00743), machine pins (PRT-00117), and female headers (PRT-00115).
footprint SMTRA-256-8-6
pins: P$1 1

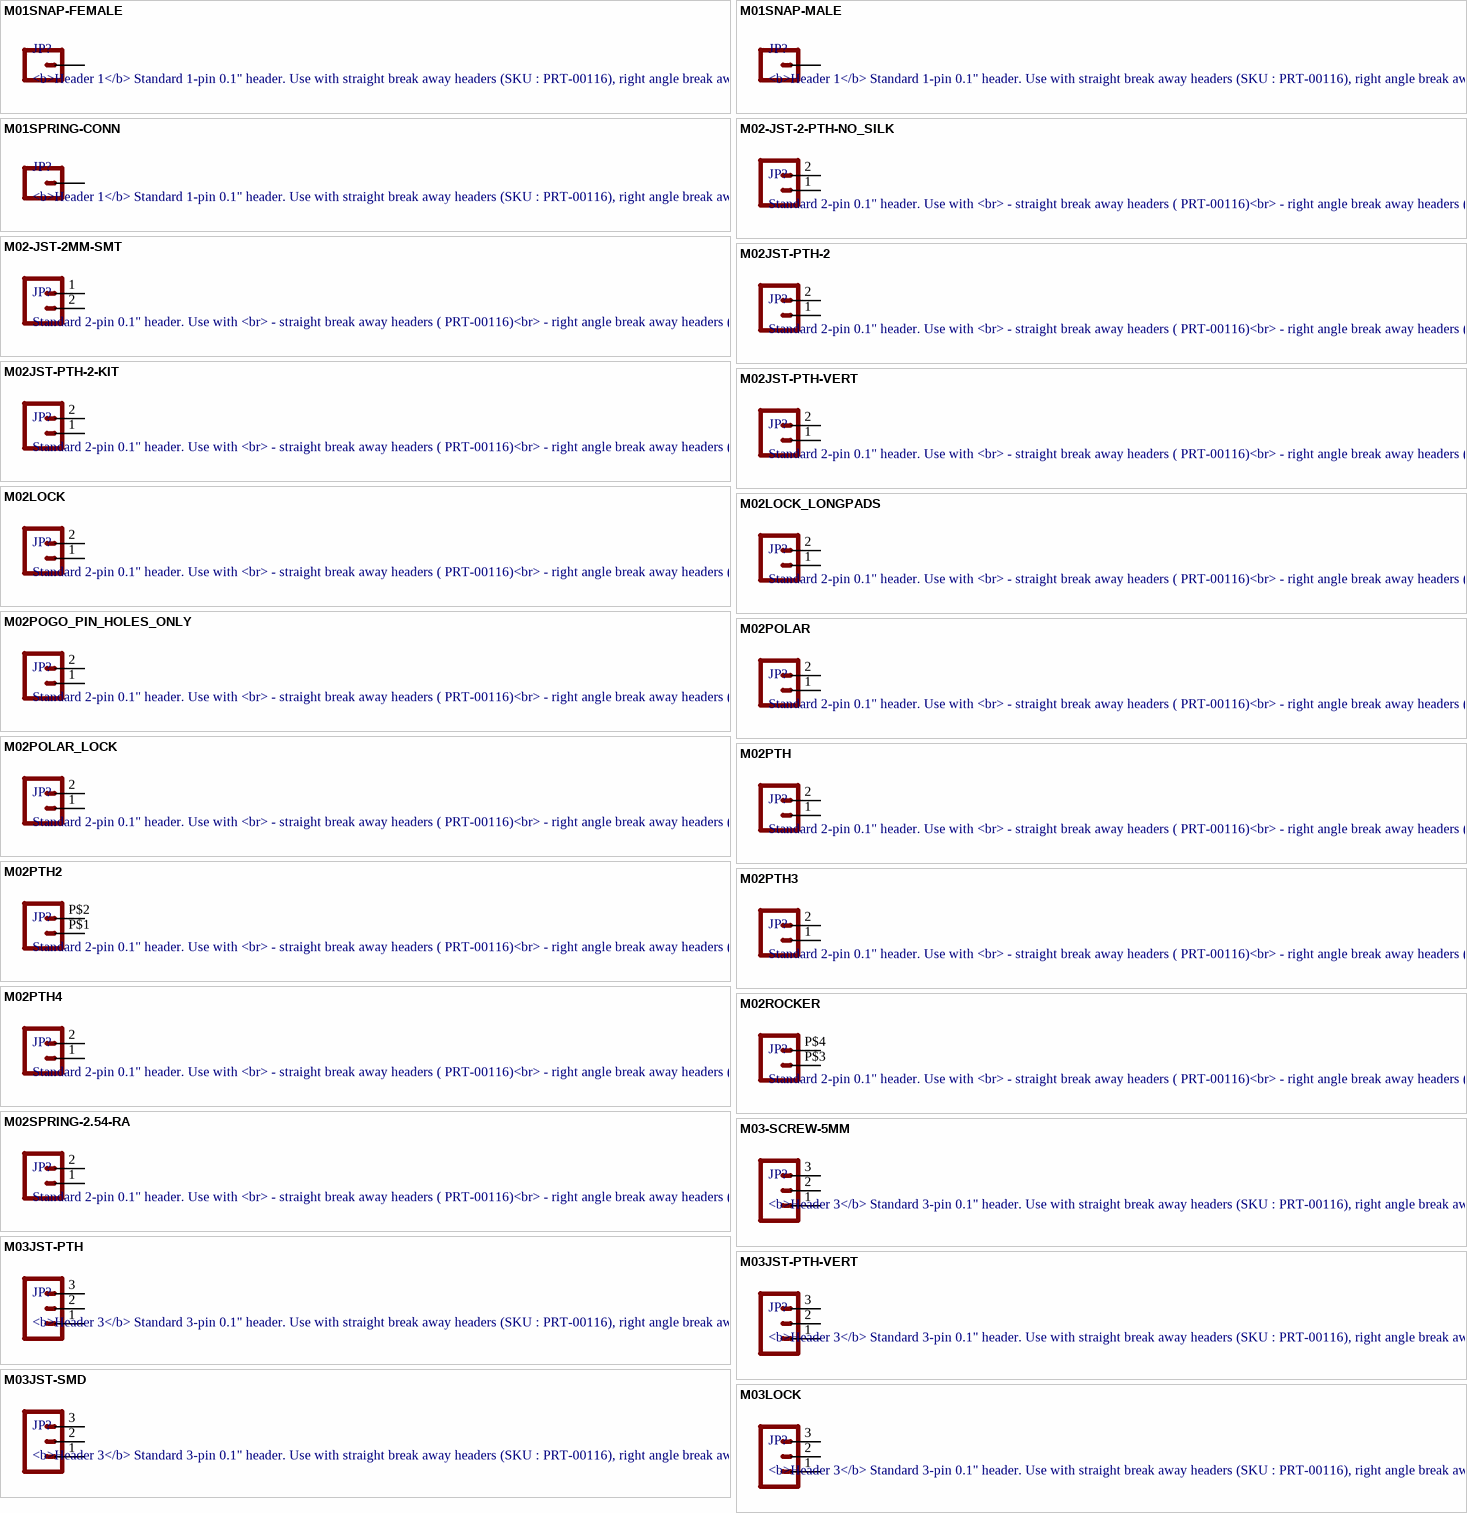
[diagram p4: symbols M01SNAP-FEMALE to M03LOCK]

## M01SNAP-FEMALE
designator JP?, comment <b>Header 1</b> / Standard 1-pin 0.1" header. Use with straight break away headers (SKU : PRT-00116), right angle break away headers (PRT-00553), swiss pins (PRT-00743), machine pins (PRT-00117), and female headers (PRT-00115).
footprint SNAP-FEMALE
pins: 1

## M01SNAP-MALE
designator JP?, comment <b>Header 1</b> / Standard 1-pin 0.1" header. Use with straight break away headers (SKU : PRT-00116), right angle break away headers (PRT-00553), swiss pins (PRT-00743), machine pins (PRT-00117), and female headers (PRT-00115).
footprint SNAP-MALE
pins: 2 1

## M01SPRING-CONN
designator JP?, comment <b>Header 1</b> / Standard 1-pin 0.1" header. Use with straight break away headers (SKU : PRT-00116), right angle break away headers (PRT-00553), swiss pins (PRT-00743), machine pins (PRT-00117), and female headers (PRT-00115).
footprint SPRING-CONNECTOR
pins: P$2 1

## M02-JST-2-PTH-NO_SILK
designator JP?, comment Standard 2-pin 0.1" header. Use with <br> / - straight break away headers ( PRT-00116)<br> / - right angle break away headers (PRT-00553)<br> / - swiss pins (PRT-00743)<br> / - machine pins (PRT-00117)<br> / - female headers (PRT-00115)<br><br> / Molex polarized connector foot print use with: PRT-08233 with associated crimp pins and housings.<br><br> / 2.54_SCREWTERM for use with  PRT-10571.<br><br> / 3.5mm Screw Terminal footprints for  PRT-08084<br><br> / 5mm Screw Terminal footprints for use with PRT-08432
footprint JST-2-PTH-NS
pins: 1, 2

## M02-JST-2MM-SMT
designator JP?, comment Standard 2-pin 0.1" header. Use with <br> / - straight break away headers ( PRT-00116)<br> / - right angle break away headers (PRT-00553)<br> / - swiss pins (PRT-00743)<br> / - machine pins (PRT-00117)<br> / - female headers (PRT-00115)<br><br> / Molex polarized connector foot print use with: PRT-08233 with associated crimp pins and housings.<br><br> / 2.54_SCREWTERM for use with  PRT-10571.<br><br> / 3.5mm Screw Terminal footprints for  PRT-08084<br><br> / 5mm Screw Terminal footprints for use with PRT-08432
PROD_ID: CONN-11443
footprint JST-2-SMD
pins: 1 2, 2 1

## M02JST-PTH-2
designator JP?, comment Standard 2-pin 0.1" header. Use with <br> / - straight break away headers ( PRT-00116)<br> / - right angle break away headers (PRT-00553)<br> / - swiss pins (PRT-00743)<br> / - machine pins (PRT-00117)<br> / - female headers (PRT-00115)<br><br> / Molex polarized connector foot print use with: PRT-08233 with associated crimp pins and housings.<br><br> / 2.54_SCREWTERM for use with  PRT-10571.<br><br> / 3.5mm Screw Terminal footprints for  PRT-08084<br><br> / 5mm Screw Terminal footprints for use with PRT-08432
PROD_ID: CONN-09863; SKU: PRT-09914
footprint JST-2-PTH
pins: 1, 2

## M02JST-PTH-2-KIT
designator JP?, comment Standard 2-pin 0.1" header. Use with <br> / - straight break away headers ( PRT-00116)<br> / - right angle break away headers (PRT-00553)<br> / - swiss pins (PRT-00743)<br> / - machine pins (PRT-00117)<br> / - female headers (PRT-00115)<br><br> / Molex polarized connector foot print use with: PRT-08233 with associated crimp pins and housings.<br><br> / 2.54_SCREWTERM for use with  PRT-10571.<br><br> / 3.5mm Screw Terminal footprints for  PRT-08084<br><br> / 5mm Screw Terminal footprints for use with PRT-08432
footprint JST-2-PTH-KIT
pins: 1, 2

## M02JST-PTH-VERT
designator JP?, comment Standard 2-pin 0.1" header. Use with <br> / - straight break away headers ( PRT-00116)<br> / - right angle break away headers (PRT-00553)<br> / - swiss pins (PRT-00743)<br> / - machine pins (PRT-00117)<br> / - female headers (PRT-00115)<br><br> / Molex polarized connector foot print use with: PRT-08233 with associated crimp pins and housings.<br><br> / 2.54_SCREWTERM for use with  PRT-10571.<br><br> / 3.5mm Screw Terminal footprints for  PRT-08084<br><br> / 5mm Screw Terminal footprints for use with PRT-08432
footprint JST-2-PTH-VERT
pins: 1, 2

## M02LOCK
designator JP?, comment Standard 2-pin 0.1" header. Use with <br> / - straight break away headers ( PRT-00116)<br> / - right angle break away headers (PRT-00553)<br> / - swiss pins (PRT-00743)<br> / - machine pins (PRT-00117)<br> / - female headers (PRT-00115)<br><br> / Molex polarized connector foot print use with: PRT-08233 with associated crimp pins and housings.<br><br> / 2.54_SCREWTERM for use with  PRT-10571.<br><br> / 3.5mm Screw Terminal footprints for  PRT-08084<br><br> / 5mm Screw Terminal footprints for use with PRT-08432
footprint 1X02_LOCK
pins: 1, 2

## M02LOCK_LONGPADS
designator JP?, comment Standard 2-pin 0.1" header. Use with <br> / - straight break away headers ( PRT-00116)<br> / - right angle break away headers (PRT-00553)<br> / - swiss pins (PRT-00743)<br> / - machine pins (PRT-00117)<br> / - female headers (PRT-00115)<br><br> / Molex polarized connector foot print use with: PRT-08233 with associated crimp pins and housings.<br><br> / 2.54_SCREWTERM for use with  PRT-10571.<br><br> / 3.5mm Screw Terminal footprints for  PRT-08084<br><br> / 5mm Screw Terminal footprints for use with PRT-08432
footprint 1X02_LOCK_LONGPADS
pins: 1, 2

## M02POGO_PIN_HOLES_ONLY
designator JP?, comment Standard 2-pin 0.1" header. Use with <br> / - straight break away headers ( PRT-00116)<br> / - right angle break away headers (PRT-00553)<br> / - swiss pins (PRT-00743)<br> / - machine pins (PRT-00117)<br> / - female headers (PRT-00115)<br><br> / Molex polarized connector foot print use with: PRT-08233 with associated crimp pins and housings.<br><br> / 2.54_SCREWTERM for use with  PRT-10571.<br><br> / 3.5mm Screw Terminal footprints for  PRT-08084<br><br> / 5mm Screw Terminal footprints for use with PRT-08432
footprint 1X02_PP_HOLES_ONLY
pins: 1, 2

## M02POLAR
designator JP?, comment Standard 2-pin 0.1" header. Use with <br> / - straight break away headers ( PRT-00116)<br> / - right angle break away headers (PRT-00553)<br> / - swiss pins (PRT-00743)<br> / - machine pins (PRT-00117)<br> / - female headers (PRT-00115)<br><br> / Molex polarized connector foot print use with: PRT-08233 with associated crimp pins and housings.<br><br> / 2.54_SCREWTERM for use with  PRT-10571.<br><br> / 3.5mm Screw Terminal footprints for  PRT-08084<br><br> / 5mm Screw Terminal footprints for use with PRT-08432
footprint MOLEX-1X2
pins: 1, 2

## M02POLAR_LOCK
designator JP?, comment Standard 2-pin 0.1" header. Use with <br> / - straight break away headers ( PRT-00116)<br> / - right angle break away headers (PRT-00553)<br> / - swiss pins (PRT-00743)<br> / - machine pins (PRT-00117)<br> / - female headers (PRT-00115)<br><br> / Molex polarized connector foot print use with: PRT-08233 with associated crimp pins and housings.<br><br> / 2.54_SCREWTERM for use with  PRT-10571.<br><br> / 3.5mm Screw Terminal footprints for  PRT-08084<br><br> / 5mm Screw Terminal footprints for use with PRT-08432
footprint MOLEX-1X2_LOCK
pins: 1, 2

## M02PTH
designator JP?, comment Standard 2-pin 0.1" header. Use with <br> / - straight break away headers ( PRT-00116)<br> / - right angle break away headers (PRT-00553)<br> / - swiss pins (PRT-00743)<br> / - machine pins (PRT-00117)<br> / - female headers (PRT-00115)<br><br> / Molex polarized connector foot print use with: PRT-08233 with associated crimp pins and housings.<br><br> / 2.54_SCREWTERM for use with  PRT-10571.<br><br> / 3.5mm Screw Terminal footprints for  PRT-08084<br><br> / 5mm Screw Terminal footprints for use with PRT-08432
footprint 1X02
pins: 1, 2

## M02PTH2
designator JP?, comment Standard 2-pin 0.1" header. Use with <br> / - straight break away headers ( PRT-00116)<br> / - right angle break away headers (PRT-00553)<br> / - swiss pins (PRT-00743)<br> / - machine pins (PRT-00117)<br> / - female headers (PRT-00115)<br><br> / Molex polarized connector foot print use with: PRT-08233 with associated crimp pins and housings.<br><br> / 2.54_SCREWTERM for use with  PRT-10571.<br><br> / 3.5mm Screw Terminal footprints for  PRT-08084<br><br> / 5mm Screw Terminal footprints for use with PRT-08432
footprint 1X02_BIG
pins: P$1 1, P$2 2

## M02PTH3
designator JP?, comment Standard 2-pin 0.1" header. Use with <br> / - straight break away headers ( PRT-00116)<br> / - right angle break away headers (PRT-00553)<br> / - swiss pins (PRT-00743)<br> / - machine pins (PRT-00117)<br> / - female headers (PRT-00115)<br><br> / Molex polarized connector foot print use with: PRT-08233 with associated crimp pins and housings.<br><br> / 2.54_SCREWTERM for use with  PRT-10571.<br><br> / 3.5mm Screw Terminal footprints for  PRT-08084<br><br> / 5mm Screw Terminal footprints for use with PRT-08432
footprint 1X02_LONGPADS
pins: 1, 2

## M02PTH4
designator JP?, comment Standard 2-pin 0.1" header. Use with <br> / - straight break away headers ( PRT-00116)<br> / - right angle break away headers (PRT-00553)<br> / - swiss pins (PRT-00743)<br> / - machine pins (PRT-00117)<br> / - female headers (PRT-00115)<br><br> / Molex polarized connector foot print use with: PRT-08233 with associated crimp pins and housings.<br><br> / 2.54_SCREWTERM for use with  PRT-10571.<br><br> / 3.5mm Screw Terminal footprints for  PRT-08084<br><br> / 5mm Screw Terminal footprints for use with PRT-08432
footprint 1X02_XTRA_BIG
pins: 1, 2

## M02ROCKER
designator JP?, comment Standard 2-pin 0.1" header. Use with <br> / - straight break away headers ( PRT-00116)<br> / - right angle break away headers (PRT-00553)<br> / - swiss pins (PRT-00743)<br> / - machine pins (PRT-00117)<br> / - female headers (PRT-00115)<br><br> / Molex polarized connector foot print use with: PRT-08233 with associated crimp pins and housings.<br><br> / 2.54_SCREWTERM for use with  PRT-10571.<br><br> / 3.5mm Screw Terminal footprints for  PRT-08084<br><br> / 5mm Screw Terminal footprints for use with PRT-08432
footprint R_SW_TH
pins: P$3 1, P$4 2

## M02SPRING-2.54-RA
designator JP?, comment Standard 2-pin 0.1" header. Use with <br> / - straight break away headers ( PRT-00116)<br> / - right angle break away headers (PRT-00553)<br> / - swiss pins (PRT-00743)<br> / - machine pins (PRT-00117)<br> / - female headers (PRT-00115)<br><br> / Molex polarized connector foot print use with: PRT-08233 with associated crimp pins and housings.<br><br> / 2.54_SCREWTERM for use with  PRT-10571.<br><br> / 3.5mm Screw Terminal footprints for  PRT-08084<br><br> / 5mm Screw Terminal footprints for use with PRT-08432
footprint SPRINGTERMINAL-2.54MM-2
pins: 1, 2

## M03-SCREW-5MM
designator JP?, comment <b>Header 3</b> / Standard 3-pin 0.1" header. Use with straight break away headers (SKU : PRT-00116), right angle break away headers (PRT-00553), swiss pins (PRT-00743), machine pins (PRT-00117), and female headers (PRT-00115). Molex polarized connector foot print use with SKU : PRT-08232 with associated crimp pins and housings.
STOREFRONT_ID: PRT-08433
footprint SCREWTERMINAL-5MM-3
pins: 1, 2, 3

## M03JST-PTH
designator JP?, comment <b>Header 3</b> / Standard 3-pin 0.1" header. Use with straight break away headers (SKU : PRT-00116), right angle break away headers (PRT-00553), swiss pins (PRT-00743), machine pins (PRT-00117), and female headers (PRT-00115). Molex polarized connector foot print use with SKU : PRT-08232 with associated crimp pins and housings.
SKU: PRT-09915
footprint JST-3-PTH
pins: 1, 2, 3

## M03JST-PTH-VERT
designator JP?, comment <b>Header 3</b> / Standard 3-pin 0.1" header. Use with straight break away headers (SKU : PRT-00116), right angle break away headers (PRT-00553), swiss pins (PRT-00743), machine pins (PRT-00117), and female headers (PRT-00115). Molex polarized connector foot print use with SKU : PRT-08232 with associated crimp pins and housings.
footprint JST-3-PTH-VERT
pins: 1, 2, 3

## M03JST-SMD
designator JP?, comment <b>Header 3</b> / Standard 3-pin 0.1" header. Use with straight break away headers (SKU : PRT-00116), right angle break away headers (PRT-00553), swiss pins (PRT-00743), machine pins (PRT-00117), and female headers (PRT-00115). Molex polarized connector foot print use with SKU : PRT-08232 with associated crimp pins and housings.
PROD_ID: CONN-12591
footprint JST-3-SMD
pins: 1, 2, 3

## M03LOCK
designator JP?, comment <b>Header 3</b> / Standard 3-pin 0.1" header. Use with straight break away headers (SKU : PRT-00116), right angle break away headers (PRT-00553), swiss pins (PRT-00743), machine pins (PRT-00117), and female headers (PRT-00115). Molex polarized connector foot print use with SKU : PRT-08232 with associated crimp pins and housings.
footprint 1X03_LOCK
pins: 1, 2, 3

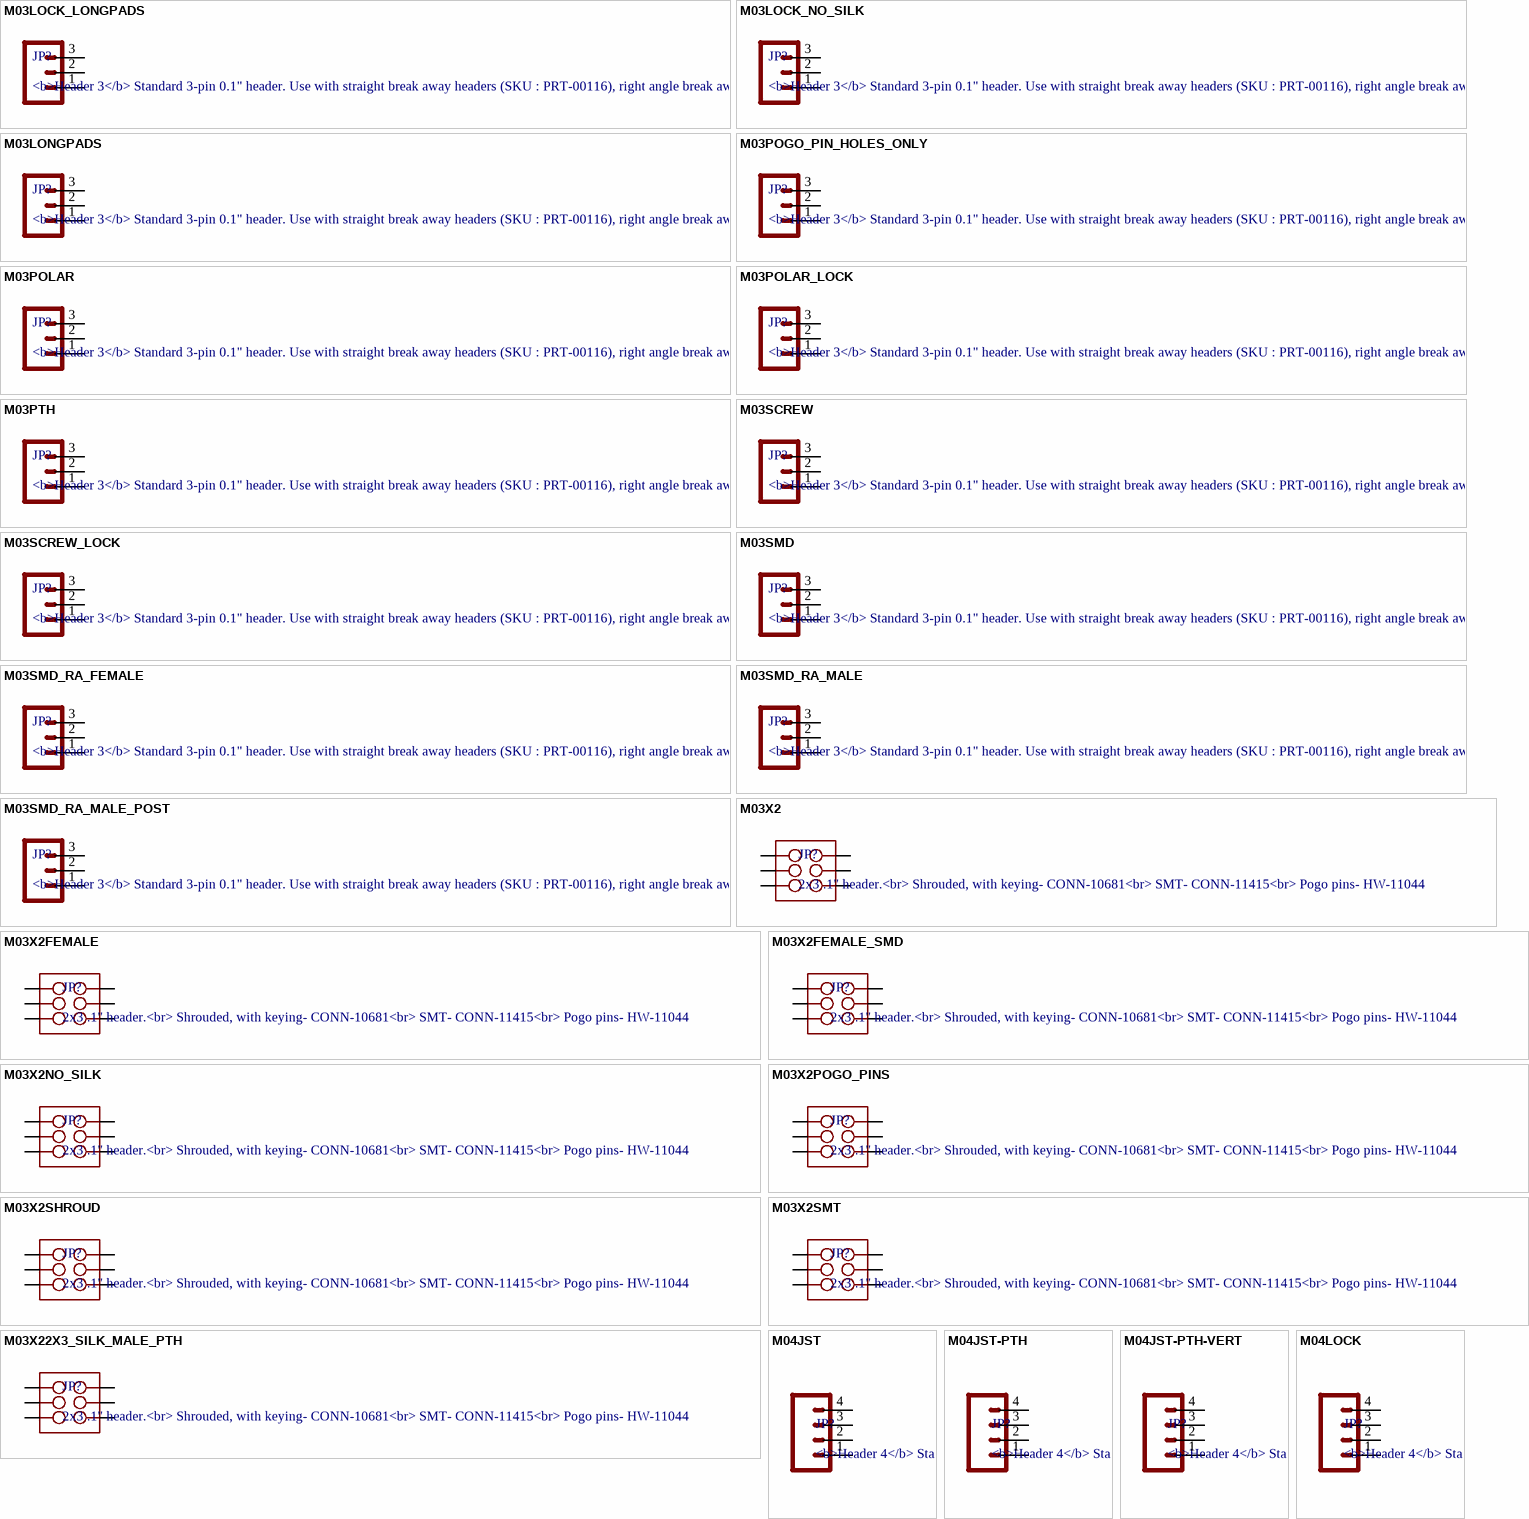
[diagram p5: symbols M03LOCK_LONGPADS to M04LOCK]

## M03LOCK_LONGPADS
designator JP?, comment <b>Header 3</b> / Standard 3-pin 0.1" header. Use with straight break away headers (SKU : PRT-00116), right angle break away headers (PRT-00553), swiss pins (PRT-00743), machine pins (PRT-00117), and female headers (PRT-00115). Molex polarized connector foot print use with SKU : PRT-08232 with associated crimp pins and housings.
footprint 1X03_LOCK_LONGPADS
pins: 1, 2, 3

## M03LOCK_NO_SILK
designator JP?, comment <b>Header 3</b> / Standard 3-pin 0.1" header. Use with straight break away headers (SKU : PRT-00116), right angle break away headers (PRT-00553), swiss pins (PRT-00743), machine pins (PRT-00117), and female headers (PRT-00115). Molex polarized connector foot print use with SKU : PRT-08232 with associated crimp pins and housings.
footprint 1X03_LOCK_NO_SILK
pins: 1, 2, 3

## M03LONGPADS
designator JP?, comment <b>Header 3</b> / Standard 3-pin 0.1" header. Use with straight break away headers (SKU : PRT-00116), right angle break away headers (PRT-00553), swiss pins (PRT-00743), machine pins (PRT-00117), and female headers (PRT-00115). Molex polarized connector foot print use with SKU : PRT-08232 with associated crimp pins and housings.
footprint 1X03_LONGPADS
pins: 1, 2, 3

## M03POGO_PIN_HOLES_ONLY
designator JP?, comment <b>Header 3</b> / Standard 3-pin 0.1" header. Use with straight break away headers (SKU : PRT-00116), right angle break away headers (PRT-00553), swiss pins (PRT-00743), machine pins (PRT-00117), and female headers (PRT-00115). Molex polarized connector foot print use with SKU : PRT-08232 with associated crimp pins and housings.
footprint 1X03_PP_HOLES_ONLY
pins: 1, 2, 3

## M03POLAR
designator JP?, comment <b>Header 3</b> / Standard 3-pin 0.1" header. Use with straight break away headers (SKU : PRT-00116), right angle break away headers (PRT-00553), swiss pins (PRT-00743), machine pins (PRT-00117), and female headers (PRT-00115). Molex polarized connector foot print use with SKU : PRT-08232 with associated crimp pins and housings.
footprint MOLEX-1X3
pins: 1, 2, 3

## M03POLAR_LOCK
designator JP?, comment <b>Header 3</b> / Standard 3-pin 0.1" header. Use with straight break away headers (SKU : PRT-00116), right angle break away headers (PRT-00553), swiss pins (PRT-00743), machine pins (PRT-00117), and female headers (PRT-00115). Molex polarized connector foot print use with SKU : PRT-08232 with associated crimp pins and housings.
footprint MOLEX-1X3_LOCK
pins: 1, 2, 3

## M03PTH
designator JP?, comment <b>Header 3</b> / Standard 3-pin 0.1" header. Use with straight break away headers (SKU : PRT-00116), right angle break away headers (PRT-00553), swiss pins (PRT-00743), machine pins (PRT-00117), and female headers (PRT-00115). Molex polarized connector foot print use with SKU : PRT-08232 with associated crimp pins and housings.
footprint 1X03
pins: 1, 2, 3

## M03SCREW
designator JP?, comment <b>Header 3</b> / Standard 3-pin 0.1" header. Use with straight break away headers (SKU : PRT-00116), right angle break away headers (PRT-00553), swiss pins (PRT-00743), machine pins (PRT-00117), and female headers (PRT-00115). Molex polarized connector foot print use with SKU : PRT-08232 with associated crimp pins and housings.
PROD_ID: CONN-08288
footprint SCREWTERMINAL-3.5MM-3
pins: 1, 2, 3

## M03SCREW_LOCK
designator JP?, comment <b>Header 3</b> / Standard 3-pin 0.1" header. Use with straight break away headers (SKU : PRT-00116), right angle break away headers (PRT-00553), swiss pins (PRT-00743), machine pins (PRT-00117), and female headers (PRT-00115). Molex polarized connector foot print use with SKU : PRT-08232 with associated crimp pins and housings.
PROD_ID: CONN-08288
footprint SCREWTERMINAL-3.5MM-3_LOCK.007S
pins: 1, 2, 3

## M03SMD
designator JP?, comment <b>Header 3</b> / Standard 3-pin 0.1" header. Use with straight break away headers (SKU : PRT-00116), right angle break away headers (PRT-00553), swiss pins (PRT-00743), machine pins (PRT-00117), and female headers (PRT-00115). Molex polarized connector foot print use with SKU : PRT-08232 with associated crimp pins and housings.
footprint 1X03-1MM-RA
pins: 1, 2, 3

## M03SMD_RA_FEMALE
designator JP?, comment <b>Header 3</b> / Standard 3-pin 0.1" header. Use with straight break away headers (SKU : PRT-00116), right angle break away headers (PRT-00553), swiss pins (PRT-00743), machine pins (PRT-00117), and female headers (PRT-00115). Molex polarized connector foot print use with SKU : PRT-08232 with associated crimp pins and housings.
PROD_ID: CONN-10926
footprint 1X03_SMD_RA_FEMALE
pins: 1, 2, 3

## M03SMD_RA_MALE
designator JP?, comment <b>Header 3</b> / Standard 3-pin 0.1" header. Use with straight break away headers (SKU : PRT-00116), right angle break away headers (PRT-00553), swiss pins (PRT-00743), machine pins (PRT-00117), and female headers (PRT-00115). Molex polarized connector foot print use with SKU : PRT-08232 with associated crimp pins and housings.
PROD_ID: CONN-10925
footprint 1X03_SMD_RA_MALE
pins: 1, 2, 3

## M03SMD_RA_MALE_POST
designator JP?, comment <b>Header 3</b> / Standard 3-pin 0.1" header. Use with straight break away headers (SKU : PRT-00116), right angle break away headers (PRT-00553), swiss pins (PRT-00743), machine pins (PRT-00117), and female headers (PRT-00115). Molex polarized connector foot print use with SKU : PRT-08232 with associated crimp pins and housings.
footprint 1X03_SMD_RA_MALE_POST
pins: 1, 2, 3

## M03X2
designator JP?, comment 2x3 .1" header.<br> / Shrouded, with keying- CONN-10681<br> / SMT- CONN-11415<br> / Pogo pins- HW-11044
PROD_ID: CONN-11290
footprint 2X3_SMD
pins: 1, 2, 3, 4, 5, 6

## M03X2FEMALE
designator JP?, comment 2x3 .1" header.<br> / Shrouded, with keying- CONN-10681<br> / SMT- CONN-11415<br> / Pogo pins- HW-11044
PROD_ID: CONN-11566
footprint 2X3
pins: 1, 2, 3, 4, 5, 6

## M03X2FEMALE_SMD
designator JP?, comment 2x3 .1" header.<br> / Shrouded, with keying- CONN-10681<br> / SMT- CONN-11415<br> / Pogo pins- HW-11044
PROD_ID: CONN-11290
footprint 2X3_SMD
pins: 1, 2, 3, 4, 5, 6

## M03X2NO_SILK
designator JP?, comment 2x3 .1" header.<br> / Shrouded, with keying- CONN-10681<br> / SMT- CONN-11415<br> / Pogo pins- HW-11044
footprint 2X3-NS
pins: 1, 2, 3, 4, 5, 6

## M03X2POGO_PINS
designator JP?, comment 2x3 .1" header.<br> / Shrouded, with keying- CONN-10681<br> / SMT- CONN-11415<br> / Pogo pins- HW-11044
PROD_ID: HW-11044
footprint 2X3_POGO
pins: P$1 1, P$2 2, P$3 3, P$4 4, P$5 5, P$6 6

## M03X2SHROUD
designator JP?, comment 2x3 .1" header.<br> / Shrouded, with keying- CONN-10681<br> / SMT- CONN-11415<br> / Pogo pins- HW-11044
PROD_ID: CONN-10681
footprint 2X3-SHROUDED
pins: 1, 2, 3, 4, 5, 6

## M03X2SMT
designator JP?, comment 2x3 .1" header.<br> / Shrouded, with keying- CONN-10681<br> / SMT- CONN-11415<br> / Pogo pins- HW-11044
PROD_ID: CONN-11415
footprint 2X3_SMT_POSTS
pins: 1, 2, 3, 4, 5, 6

## M03X22X3_SILK_MALE_PTH
designator JP?, comment 2x3 .1" header.<br> / Shrouded, with keying- CONN-10681<br> / SMT- CONN-11415<br> / Pogo pins- HW-11044
PROD_ID: CONN-09701
footprint 2X3
pins: 1, 2, 3, 4, 5, 6

## M04JST
designator JP?, comment <b>Header 4</b> / Standard 4-pin 0.1" header. Use with straight break away headers (SKU : PRT-00116), right angle break away headers (PRT-00553), swiss pins (PRT-00743), machine pins (PRT-00117), and female headers (PRT-00115). Molex polarized connector foot print use with SKU : PRT-08231 with associated crimp pins and housings. 1MM SMD Version SKU: PRT-10208
footprint 1X04-1.5MM_JST
pins: 1, 2, 3, 4

## M04JST-PTH
designator JP?, comment <b>Header 4</b> / Standard 4-pin 0.1" header. Use with straight break away headers (SKU : PRT-00116), right angle break away headers (PRT-00553), swiss pins (PRT-00743), machine pins (PRT-00117), and female headers (PRT-00115). Molex polarized connector foot print use with SKU : PRT-08231 with associated crimp pins and housings. 1MM SMD Version SKU: PRT-10208
SKU: PRT-09916
footprint JST-4-PTH
pins: 1, 2, 3, 4

## M04JST-PTH-VERT
designator JP?, comment <b>Header 4</b> / Standard 4-pin 0.1" header. Use with straight break away headers (SKU : PRT-00116), right angle break away headers (PRT-00553), swiss pins (PRT-00743), machine pins (PRT-00117), and female headers (PRT-00115). Molex polarized connector foot print use with SKU : PRT-08231 with associated crimp pins and housings. 1MM SMD Version SKU: PRT-10208
footprint JST-4-PTH-VERT
pins: 1, 2, 3, 4

## M04LOCK
designator JP?, comment <b>Header 4</b> / Standard 4-pin 0.1" header. Use with straight break away headers (SKU : PRT-00116), right angle break away headers (PRT-00553), swiss pins (PRT-00743), machine pins (PRT-00117), and female headers (PRT-00115). Molex polarized connector foot print use with SKU : PRT-08231 with associated crimp pins and housings. 1MM SMD Version SKU: PRT-10208
footprint 1X04_LOCK
pins: 1, 2, 3, 4

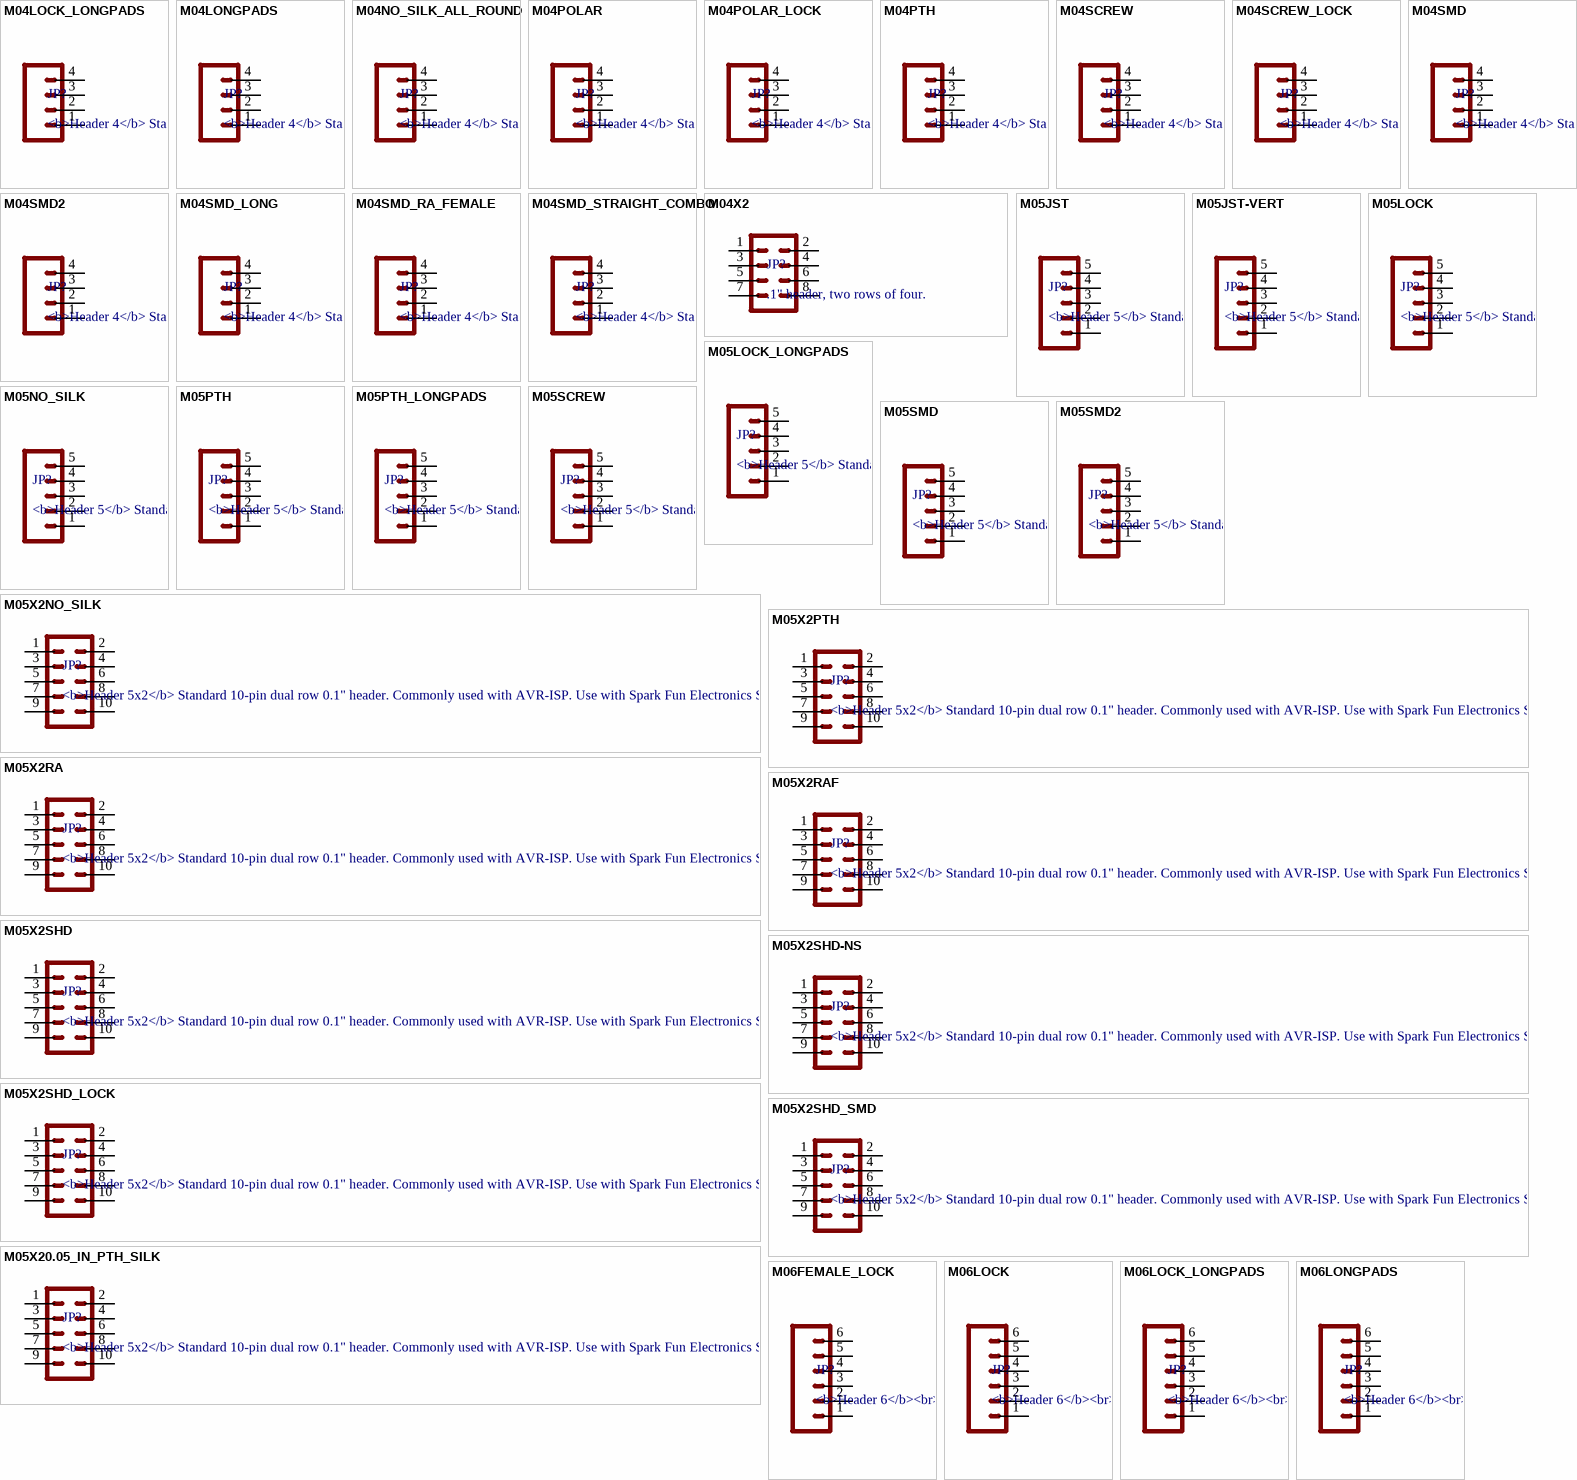
[diagram p6: symbols M04LOCK_LONGPADS to M06LONGPADS]

## M04LOCK_LONGPADS
designator JP?, comment <b>Header 4</b> / Standard 4-pin 0.1" header. Use with straight break away headers (SKU : PRT-00116), right angle break away headers (PRT-00553), swiss pins (PRT-00743), machine pins (PRT-00117), and female headers (PRT-00115). Molex polarized connector foot print use with SKU : PRT-08231 with associated crimp pins and housings. 1MM SMD Version SKU: PRT-10208
footprint 1X04_LOCK_LONGPADS
pins: 1, 2, 3, 4

## M04LONGPADS
designator JP?, comment <b>Header 4</b> / Standard 4-pin 0.1" header. Use with straight break away headers (SKU : PRT-00116), right angle break away headers (PRT-00553), swiss pins (PRT-00743), machine pins (PRT-00117), and female headers (PRT-00115). Molex polarized connector foot print use with SKU : PRT-08231 with associated crimp pins and housings. 1MM SMD Version SKU: PRT-10208
footprint 1X04_LONGPADS
pins: 1, 2, 3, 4

## M04NO_SILK_ALL_ROUND
designator JP?, comment <b>Header 4</b> / Standard 4-pin 0.1" header. Use with straight break away headers (SKU : PRT-00116), right angle break away headers (PRT-00553), swiss pins (PRT-00743), machine pins (PRT-00117), and female headers (PRT-00115). Molex polarized connector foot print use with SKU : PRT-08231 with associated crimp pins and housings. 1MM SMD Version SKU: PRT-10208
footprint 1X04_NO_SILK_ALL_ROUND
pins: 1, 2, 3, 4

## M04POLAR
designator JP?, comment <b>Header 4</b> / Standard 4-pin 0.1" header. Use with straight break away headers (SKU : PRT-00116), right angle break away headers (PRT-00553), swiss pins (PRT-00743), machine pins (PRT-00117), and female headers (PRT-00115). Molex polarized connector foot print use with SKU : PRT-08231 with associated crimp pins and housings. 1MM SMD Version SKU: PRT-10208
footprint MOLEX-1X4
pins: 1, 2, 3, 4

## M04POLAR_LOCK
designator JP?, comment <b>Header 4</b> / Standard 4-pin 0.1" header. Use with straight break away headers (SKU : PRT-00116), right angle break away headers (PRT-00553), swiss pins (PRT-00743), machine pins (PRT-00117), and female headers (PRT-00115). Molex polarized connector foot print use with SKU : PRT-08231 with associated crimp pins and housings. 1MM SMD Version SKU: PRT-10208
footprint MOLEX-1X4_LOCK
pins: 1, 2, 3, 4

## M04PTH
designator JP?, comment <b>Header 4</b> / Standard 4-pin 0.1" header. Use with straight break away headers (SKU : PRT-00116), right angle break away headers (PRT-00553), swiss pins (PRT-00743), machine pins (PRT-00117), and female headers (PRT-00115). Molex polarized connector foot print use with SKU : PRT-08231 with associated crimp pins and housings. 1MM SMD Version SKU: PRT-10208
footprint 1X04
pins: 1, 2, 3, 4

## M04SCREW
designator JP?, comment <b>Header 4</b> / Standard 4-pin 0.1" header. Use with straight break away headers (SKU : PRT-00116), right angle break away headers (PRT-00553), swiss pins (PRT-00743), machine pins (PRT-00117), and female headers (PRT-00115). Molex polarized connector foot print use with SKU : PRT-08231 with associated crimp pins and housings. 1MM SMD Version SKU: PRT-10208
PROD_ID: Combine 2x8399
footprint SCREWTERMINAL-3.5MM-4
pins: 1, 2, 3, 4

## M04SCREW_LOCK
designator JP?, comment <b>Header 4</b> / Standard 4-pin 0.1" header. Use with straight break away headers (SKU : PRT-00116), right angle break away headers (PRT-00553), swiss pins (PRT-00743), machine pins (PRT-00117), and female headers (PRT-00115). Molex polarized connector foot print use with SKU : PRT-08231 with associated crimp pins and housings. 1MM SMD Version SKU: PRT-10208
footprint SCREWTERMINAL-3.5MM-4_LOCK
pins: 1, 2, 3, 4